# Altium schematic symbol library hphonglib.SchLib: 598 symbols (part 1 of 8)
Pins are listed as number, name and electrical type; pins without a type are passive.

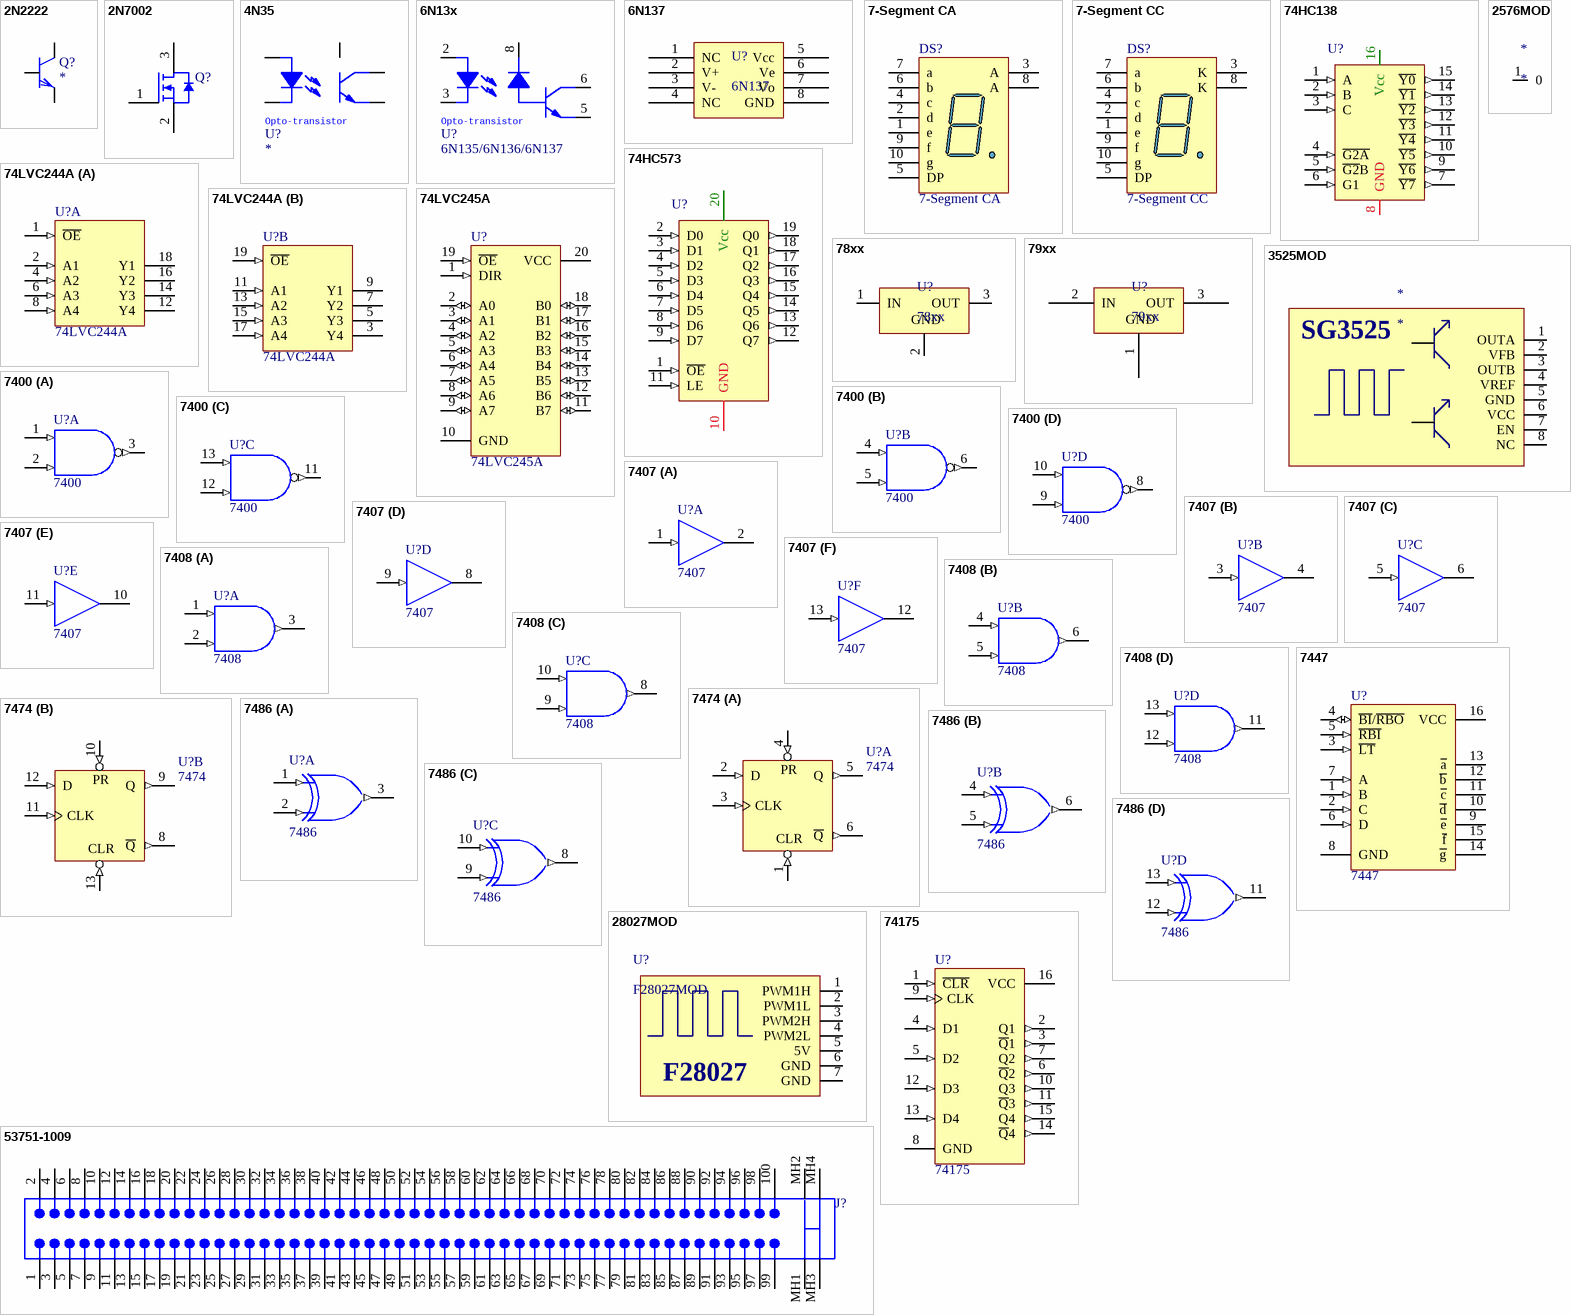
[diagram p0: symbols 2N2222 to 74175]

## 2N2222
designator Q?
NPN BJT Transistor; COMPONENT: 2N2222; PSpiceTemplate: Q^@REFDES %c %b %e @MODEL; Vendor: Digikey; Publisher: Hoang Nguyen; Published: 13-April-2009; ComponentLink1Description: Digikey Part Link; ComponentLink2Description: Open Datasheet; ComponentLink2URL: H:\LIBRARY\LIBRARY.Datasheet\
footprint TO18
simulation model Q2N2222
pins: 1 e, 2 b, 3 c

## 2N7002
designator Q?
N-Channel Enhancement Mode FET; Vendor: Digikey; Published: 5-Jan-2004; DatasheetDocument: Rev A1, 1997; Publisher: Altium Limited; ComponentLink1Description: Digikey Part Link; ComponentLink2Description: Open Datasheet; ComponentLink2URL: H:\LIBRARY\LIBRARY.Datasheet\
footprint SO-G3 (SOT-23; 3 Leads; 1.9mm x 2.2 mm (LxW))
pcadlib SO-G3 (SOT-23; 3 Leads; 1.9mm x 2.2 mm (LxW))
pins: 1 G "Gate", 2 S "Source", 3 D "Drain"

## 4N35
designator U?
Opto Couple; Vendor: Digikey; Published: 13-April-2009; Publisher: Hoang Nguyen; ComponentLink1Description: Digikey Part Link; ComponentLink2Description: Open Datasheet; ComponentLink2URL: H:\LIBRARY\LIBRARY.Datasheet\
footprint DIP6
pins: 1, 2, 4, 5, 6
text: Opto-transistor

## 6N13x
designator U?, comment 6N135/6N136/6N137
Opto Couple; Manufacturer: TI; Vendor: Digikey; Published: 13-April-2009; Publisher: Hoang Nguyen; ComponentLink1Description: Digikey Part Link; ComponentLink2Description: Open Datasheet; ComponentLink2URL: H:\LIBRARY\LIBRARY.Datasheet\
footprint DIP8N (Dual Inline Package 8 pins)
pins: 2 ANODE, 3 CATHODE, 5 GND, 6 OUTPUT, 8 VCC
text: Opto-transistor

## 6N137
designator U?
Single-Channel, High Speed 10MBit/s Logic Gate Optocouplers
footprint DIP-8 (DIP, 8-Pin, Row Spacing 7.62 mm, Pitch 2.54 mm)
pins: 1 NC, 2 V+, 3 V-, 4 NC, 5 Vcc, 6 Ve, 7 Vo, 8 GND

## 7-Segment CA
designator DS?
14.2 mm General Purpose Blue 7-Segment Display: CA, RH DP, Gray Surface; MinimumIntensity: 2020 ucd; Note: IF = 10 mA; Published: 8-Jun-2000; LatestRevisionDate: 17-Dec-2003; LatestRevisionNote: Schematic revised, PCB Footprint replaced.; DatasheetDocument: 24-Sep-2002; PackageDocument: 24-Sep-2002; PackageReference: H; Publisher: Altium Limited; Colour: Blue; ComponentLink1Description: Manufacturer Link; ComponentLink1URL: http://www.agilent.com/
footprint 7-Segment (LED, 7-Segment Display, 14.2 mm, RHD; 10 Leads; Row Space 15.24 mm; Pitch 2.54 mm)
pins: 1 e "Cathode", 2 d "Cathode", 3 A "Common Anode", 4 c "Cathode", 5 DP "Cathode", 6 b "Cathode", 7 a "Cathode", 8 A "Common Anode", 9 f "Cathode", 10 g "Cathode"

## 7-Segment CC
designator DS?
14.2 mm General Purpose Blue 7-Segment Display: CC, RH DP, Gray Surface; MinimumIntensity: 2020 ucd; Note: IF = 10 mA; Published: 8-Jun-2000; LatestRevisionDate: 17-Dec-2003; LatestRevisionNote: Schematic revised, PCB Footprint replaced.; DatasheetDocument: 24-Sep-2002; PackageDocument: 24-Sep-2002; PackageReference: H; Publisher: Altium Limited; Colour: Blue; ComponentLink1Description: Manufacturer Link; ComponentLink1URL: http://www.agilent.com/
footprint 7-Segment (LED, 7-Segment Display, 14.2 mm, RHD; 10 Leads; Row Space 15.24 mm; Pitch 2.54 mm)
pins: 1 e "Anode", 2 d "Anode", 3 K "Common Cathode", 4 c "Anode", 5 DP "Anode", 6 b "Anode", 7 a "Anode", 8 K "Common Cathode", 9 f "Anode", 10 g "Anode"

## 74HC138
designator U?  (value not drawn)
3-to-8 line decoder/demultiplexer; inverting; ComponentLink2Description: Open Datasheet; ComponentLink2URL: H:\LIBRARY\LIBRARY.Datasheet\MM74HC138.pdf; Price: 2.500 VND
footprint SOIC16 (Small Outline; 16 Leads; Body Width 3.5 mm; Pitch 1.27 mm)
footprint DIP16 (DIP; 16 Leads; Row Spacing 7.62 mm; Pitch 2.54 mm)
footprint SOIC16_150_N (Small Outline; 16 Leads; Body Width 3.5 mm; Pitch 1.27 mm)
pins: 1 A (in), 2 B (in), 3 C (in), 4 ~{G2A} (in), 5 ~{G2}B (in), 6 G1 (in), 7 ~{Y7} (out), 8 GND (power), 9 ~{Y6} (out), 10 ~{Y5} (out), 11 ~{Y4} (out), 12 ~{Y3} (out), 13 ~{Y2} (out), 14 ~{Y1} (out), 15 ~{Y0} (out), 16 Vcc (power)

## 74HC573
designator U?  (value not drawn)
Octal D-type transparent latch;  3-state; ComponentLink2Description: Open Datasheet; ComponentLink2URL: H:\LIBRARY\LIBRARY.Datasheet\74HC(T)573.pdf; Price: 3.000 VND
footprint SO-20 - 74HC573 (: plastic small outline package; 20 leads; body width 7.5 mm)
footprint DIP20
footprint SSOP-20 (SSOP, Plastic; 20 Leads; Body Width 5.3 mm; Pitch 0.65 mm)
footprint VO20
footprint DIP20N (DIP; 20 Leads; Row Spacing 7.62 mm; Pitch 2.54 mm)
footprint SO-20-300 (Footprint not found)
pins: 1 ~{OE} (in), 2 D0 (in), 3 D1 (in), 4 D2 (in), 5 D3 (in), 6 D4 (in), 7 D5 (in), 8 D6 (in), 9 D7 (in), 10 GND (power), 11 LE (in), 12 Q7 (out), 13 Q6 (out), 14 Q5 (out), 15 Q4 (out), 16 Q3 (out), 17 Q2 (out), 18 Q1 (out), 19 Q0 (out), 20 Vcc (power)

## 74LVC244A
designator U?
Octal Buffer/Driver with 3-State Outputs; Vendor: Digikey; Published: 5-Jan-2004; DatasheetDocument: Aug-2003; Publisher: Altium Limited; ComponentLink1Description: Digikey Part Link; ComponentLink2Description: Open Datasheet; ComponentLink2URL: H:\LIBRARY\LIBRARY.Datasheet\sn74LS244.pdf
footprint SSOP-20 (SSOP, Plastic; 20 Leads; Body Width 5.3 mm; Pitch 0.65 mm)
pcadlib SSO-G20/P.65 (SSOP; 20 Leads; Body Width 5.3 mm; Pitch 0.65 mm)
footprint VO20
footprint SO-20-300 (: plastic small outline package; 20 leads; body width 7.5 mm)
footprint DIP20
footprint DIP20N (DIP; 20 Leads; Row Spacing 7.62 mm; Pitch 2.54 mm)
pins on every part: 10 GND (power) hidden to GND, 20 VCC (power) hidden to VCC
part A pins: 1 ~{OE} (in), 2 A1 (in), 4 A2 (in), 6 A3 (in), 8 A4 (in), 12 Y4 (hiz), 14 Y3 (hiz), 16 Y2 (hiz), 18 Y1 (hiz)
part B pins: 3 Y4 (hiz), 5 Y3 (hiz), 7 Y2 (hiz), 9 Y1 (hiz), 11 A1 (in), 13 A2 (in), 15 A3 (in), 17 A4 (in), 19 ~{OE} (in)

## 74LVC245A
designator U?
Octal Bus Transceiver with 3-State Outputs; Vendor: Digikey; Published: 5-Jan-2004; DatasheetDocument: Aug-2003; Publisher: Altium Limited; ComponentLink1Description: Digikey Part Link; ComponentLink2Description: Open Datasheet; ComponentLink2URL: H:\LIBRARY\LIBRARY.Datasheet\74LS245.pdf; Price: 3.500 VND
pcadlib SSO-G20/P.65 (SSOP; 20 Leads; Body Width 5.3 mm; Pitch 0.65 mm)
footprint DIP20
footprint SSOP-20 (SSOP, Plastic; 20 Leads; Body Width 5.3 mm; Pitch 0.65 mm)
footprint VO20
footprint SO-20-300 (: plastic small outline package; 20 leads; body width 7.5 mm)
footprint DIP20N (DIP; 20 Leads; Row Spacing 7.62 mm; Pitch 2.54 mm)
pins: 1 DIR (in), 2 A0 (io), 3 A1 (io), 4 A2 (io), 5 A3 (io), 6 A4 (io), 7 A5 (io), 8 A6 (io), 9 A7 (io), 10 GND (power), 11 B7 (io), 12 B6 (io), 13 B5 (io), 14 B4 (io), 15 B3 (io), 16 B2 (io), 17 B1 (io), 18 B0 (io), 19 ~{OE} (in), 20 VCC (power)

## 78xx
designator U?
3-Terminal 1A Positive Voltage Regulator
footprint TO-220-3 (TO-220; 3 Leads; Solder Pad 35mil)
footprint TO-220-3-Heatsink (TO-220; Heatsink; 3 Leads; Solder Pad 35mil)
pins: 1 IN, 2 GND, 3 OUT

## 79xx
designator U?
3-Terminal 1A Negative Voltage Regulator
footprint TO-220-3 (TO-220; 3 Leads; Solder Pad 35mil)
footprint TO-220-3-Heatsink (TO-220; Heatsink; 3 Leads; Solder Pad 35mil)
pins: 1 GND, 2 IN, 3 OUT

## 2576MOD
designator *
pins: 1 0

## 3525MOD
designator *
pins: 1 OUTA, 2 VFB, 3 OUTB, 4 VREF, 5 GND, 6 VCC, 7 EN, 8 NC
text: SG3525

## 7400
designator U?
Quad 2-Input NAND Gate; Published: 15-Apr-2002; LatestRevisionDate: 06-Jun-2005; LatestRevisionNote: Stylized 3D Model Added.; DatasheetVersion: Dec-1994; PackageVersion: 2000; PackageReference: N14A; Publisher: Altium Limited; PackageDescription: DIP; 14 Leads; Row Spacing 7.62 mm; Pitch 2.54 mm; ComponentLink1Description: Manufacturer Link; ComponentLink1URL: http://www.national.com/; ComponentLink2Description: Datasheet; ComponentLink2URL: http://www.fairchildsemi.com/ds/74/74F00.pdf; ComponentLink3Description: URL Link1; ComponentLink3URL: http://www.fairchildsemi.com/pf/74/74F00.html
footprint DIP-14 (DIP, 14-Pin, Row Spacing 7.62 mm, Pitch 2.54 mm)
pins on every part: 7 GND (power) hidden to GND, 14 VCC (power) hidden to VCC
part A pins: 1 A (in), 2 B (in), 3 ~{O} (out)
part B pins: 4 A (in), 5 B (in), 6 ~{O} (out)
part C pins: 11 ~{O} (out), 12 B (in), 13 A (in)
part D pins: 8 ~{O} (out), 9 B (in), 10 A (in)

## 7407
designator U?
Hex Buffer / Driver with Open-Collector High-Voltage Outputs; Published: 8-Jun-2000; LatestRevisionDate: 04-Mar-2005; LatestRevisionNote: Stylized 3D Model Added.; DatasheetVersion: Nov-1997; PackageVersion: Oct-1995; PackageReference: N014; Publisher: Altium Limited; PackageDescription: DIP; 14 Leads; Row Spacing 7.62 mm; Pitch 2.54 mm; ComponentLink1Description: Manufacturer Link; ComponentLink1URL: http://www.ti.com/; ComponentLink2Description: Datasheet; ComponentLink2URL: http://www-s.ti.com/sc/ds/sn5407.pdf; ComponentLink3Description: Packaging Specification; ComponentLink3URL: http://focus.ti.com/lit/ml/mpdi002c/mpdi002c.pdf
footprint DIP-14 (DIP, 14-Pin, Row Spacing 7.62 mm, Pitch 2.54 mm)
pins on every part: 7 GND (power) hidden to GND, 14 VCC (power) hidden to VCC
part A pins: 1 A (in), 2 Y (oc)
part B pins: 3 A (in), 4 Y (oc)
part C pins: 5 A (in), 6 Y (oc)
part D pins: 8 Y (oc), 9 A (in)
part E pins: 10 Y (oc), 11 A (in)
part F pins: 12 Y (oc), 13 A (in)

## 7408
designator U?
Quad 2-Input AND Gate; Published: 15-Apr-2002; LatestRevisionDate: 06-Jun-2005; LatestRevisionNote: Stylized 3D Model Added.; DatasheetVersion: Dec-1994; PackageVersion: 2000; PackageReference: N14A; Publisher: Altium Limited; PackageDescription: DIP; 14 Leads; Row Spacing 7.62 mm; Pitch 2.54 mm; ComponentLink1Description: Manufacturer Link; ComponentLink1URL: http://www.national.com/; ComponentLink2Description: Datasheet; ComponentLink2URL: http://www.fairchildsemi.com/ds/74/74F08.pdf; ComponentLink3Description: URL Link1; ComponentLink3URL: http://www.fairchildsemi.com/pf/74/74F08.html
footprint DIP-14 (DIP, 14-Pin, Row Spacing 7.62 mm, Pitch 2.54 mm)
pins on every part: 7 GND (power) hidden to GND, 14 VCC (power) hidden to VCC
part A pins: 1 A (in), 2 B (in), 3 O (out)
part B pins: 4 A (in), 5 B (in), 6 O (out)
part C pins: 8 O (out), 9 B (in), 10 A (in)
part D pins: 11 O (out), 12 B (in), 13 A (in)

## 7447
designator U?
BCD to 7-Segment Decoder/Driver; Published: 15-Apr-2002; LatestRevisionDate: 06-Jun-2005; LatestRevisionNote: Stylized 3D Model Added.; DatasheetVersion: Jun-1989; PackageVersion: 2000; PackageReference: N16E; Publisher: Altium Limited; PackageDescription: DIP; 16 Leads; Row Spacing 7.62 mm; Pitch 2.54 mm; ComponentLink1Description: Manufacturer Link; ComponentLink1URL: http://www.national.com/; ComponentLink2Description: Datasheet; ComponentLink2URL: http://www.national.com/ds.cgi/DM/DM5447A.pdf; ComponentLink3Description: URL Link1; ComponentLink3URL: http://www.national.com/pf/DM/DM5447A.html
footprint DIP-16 (DIP, 16-Pin, Row Spacing 7.62 mm, Pitch 2.54 mm)
pins: 1 B (in), 2 C (in), 3 ~{LT} (in), 4 ~{BI}/~{RBO} (io), 5 ~{RBI} (in), 6 D (in), 7 A (in), 8 GND (power), 9 ~{e} (oc), 10 ~{d} (oc), 11 ~{c} (oc), 12 ~{b} (oc), 13 ~{a} (oc), 14 ~{g} (oc), 15 ~{f} (oc), 16 VCC (power)

## 7474
designator U?
Dual D-Type Positive Edge-Triggered Flip-Flop; Published: 15-Apr-2002; LatestRevisionDate: 06-Jun-2005; LatestRevisionNote: Stylized 3D Model Added.; DatasheetVersion: Feb-1993; PackageVersion: 2000; PackageReference: N14A; Publisher: Altium Limited; PackageDescription: DIP; 14 Leads; Row Spacing 7.62 mm; Pitch 2.54 mm; ComponentLink1Description: Manufacturer Link; ComponentLink1URL: http://www.national.com/; ComponentLink2Description: Datasheet; ComponentLink2URL: http://www.fairchildsemi.com/ds/74/74AC74.pdf
footprint DIP-14 (DIP, 14-Pin, Row Spacing 7.62 mm, Pitch 2.54 mm)
pins on every part: 7 GND (power) hidden to GND, 14 VCC (power) hidden to VCC
part A pins: 1 CLR (in), 2 D (in), 3 CLK (in), 4 PR (in), 5 Q (out), 6 ~{Q} (out)
part B pins: 8 ~{Q} (out), 9 Q (out), 10 PR (in), 11 CLK (in), 12 D (in), 13 CLR (in)

## 7486
designator U?
2-Input Exclusive-OR Gate; Published: 15-Apr-2002; LatestRevisionDate: 06-Jun-2005; LatestRevisionNote: Stylized 3D Model Added.; DatasheetVersion: Dec-1994; PackageVersion: 2000; PackageReference: N14A; Publisher: Altium Limited; PackageDescription: DIP; 14 Leads; Row Spacing 7.62 mm; Pitch 2.54 mm; ComponentLink1Description: Manufacturer Link; ComponentLink1URL: http://www.national.com/; ComponentLink2Description: Datasheet; ComponentLink2URL: http://www.fairchildsemi.com/ds/74/74F86.pdf; ComponentLink3Description: URL Link1; ComponentLink3URL: http://www.fairchildsemi.com/pf/74/74F86.html
footprint DIP-14 (DIP, 14-Pin, Row Spacing 7.62 mm, Pitch 2.54 mm)
pins on every part: 7 GND (power) hidden to GND, 14 VCC (power) hidden to VCC
part A pins: 1 A (in), 2 B (in), 3 O (out)
part B pins: 4 A (in), 5 B (in), 6 O (out)
part C pins: 8 O (out), 9 B (in), 10 A (in)
part D pins: 11 O (out), 12 B (in), 13 A (in)

## 28027MOD
designator U?, comment F28027MOD
pins: 1 PWM1H, 2 PWM1L, 3 PWM2H, 4 PWM2L, 5 5V, 6 GND, 7 GND
text: F28027

## 53751-1009
designator J?
Board-to-Board, Docking Station, 0.80mm (.031") Pitch, Shielded Plug, Vertical, Ultra Low Profile, SMT; Vendor: Digikey; Published: 5-Jan-2004; DatasheetDocument: 04-Feb-2002; Publisher: Altium Limited; ComponentLink1Description: Digikey Part Link; ComponentLink2Description: Open Datasheet; ComponentLink2URL: H:\LIBRARY\LIBRARY.Datasheet\
footprint 53751 (Board-to-Board, Docking Station, 0.80mm (.031") Pitch, Shielded Plug, Vertical, Ultra Low Profile, SMT)
pcadlib 53751 (Board-to-Board, Docking Station, 0.80mm (.031") Pitch, Shielded Plug, Vertical, Ultra Low Profile, SMT)
pins: 1, 2, 3, 4, 5, 6, 7, 8, 9, 10, 11, 12, 13, 14, 15, 16, 17, 18, 19, 20, 21, 22, 23, 24, 25, 26, 27, 28, 29, 30, 31, 32, 33, 34, 35, 36, 37, 38, 39, 40, 41, 42, 43, 44, 45, 46, 47, 48, 49, 50, 51, 52, 53, 54, 55, 56, 57, 58, 59, 60, 61, 62, 63, 64, 65, 66, 67, 68, 69, 70, 71, 72, 73, 74, 75, 76, 77, 78, 79, 80, 81, 82, 83, 84, 85, 86, 87, 88, 89, 90, 91, 92, 93, 94, 95, 96, 97, 98, 99, 100, MH1, MH2, MH2A, MH2B, MH3, MH4, MH4A, MH4B
1 alternate drawing of the same symbol

## 74175
designator U?
Quad D-Type Flip-Flop with Clear; Published: 15-Apr-2002; LatestRevisionDate: 06-Jun-2005; LatestRevisionNote: Stylized 3D Model Added.; DatasheetVersion: 1995; PackageVersion: 2000; PackageReference: N16A; Publisher: Altium Limited; PackageDescription: DIP; 16 Leads; Row Spacing 7.62 mm; Pitch 2.54 mm; ComponentLink1Description: Manufacturer Link; ComponentLink1URL: http://www.national.com/; ComponentLink2Description: Datasheet; ComponentLink2URL: http://www.fairchildsemi.com/ds/DM/DM74ALS175.pdf
footprint DIP-16 (DIP, 16-Pin, Row Spacing 7.62 mm, Pitch 2.54 mm)
pins: 1 ~{CLR} (in), 2 Q1 (out), 3 ~{Q}1 (out), 4 D1 (in), 5 D2 (in), 6 ~{Q}2 (out), 7 Q2 (out), 8 GND (power), 9 CLK (in), 10 Q3 (out), 11 ~{Q}3 (out), 12 D3 (in), 13 D4 (in), 14 ~{Q}4 (out), 15 Q4 (out), 16 VCC (power)

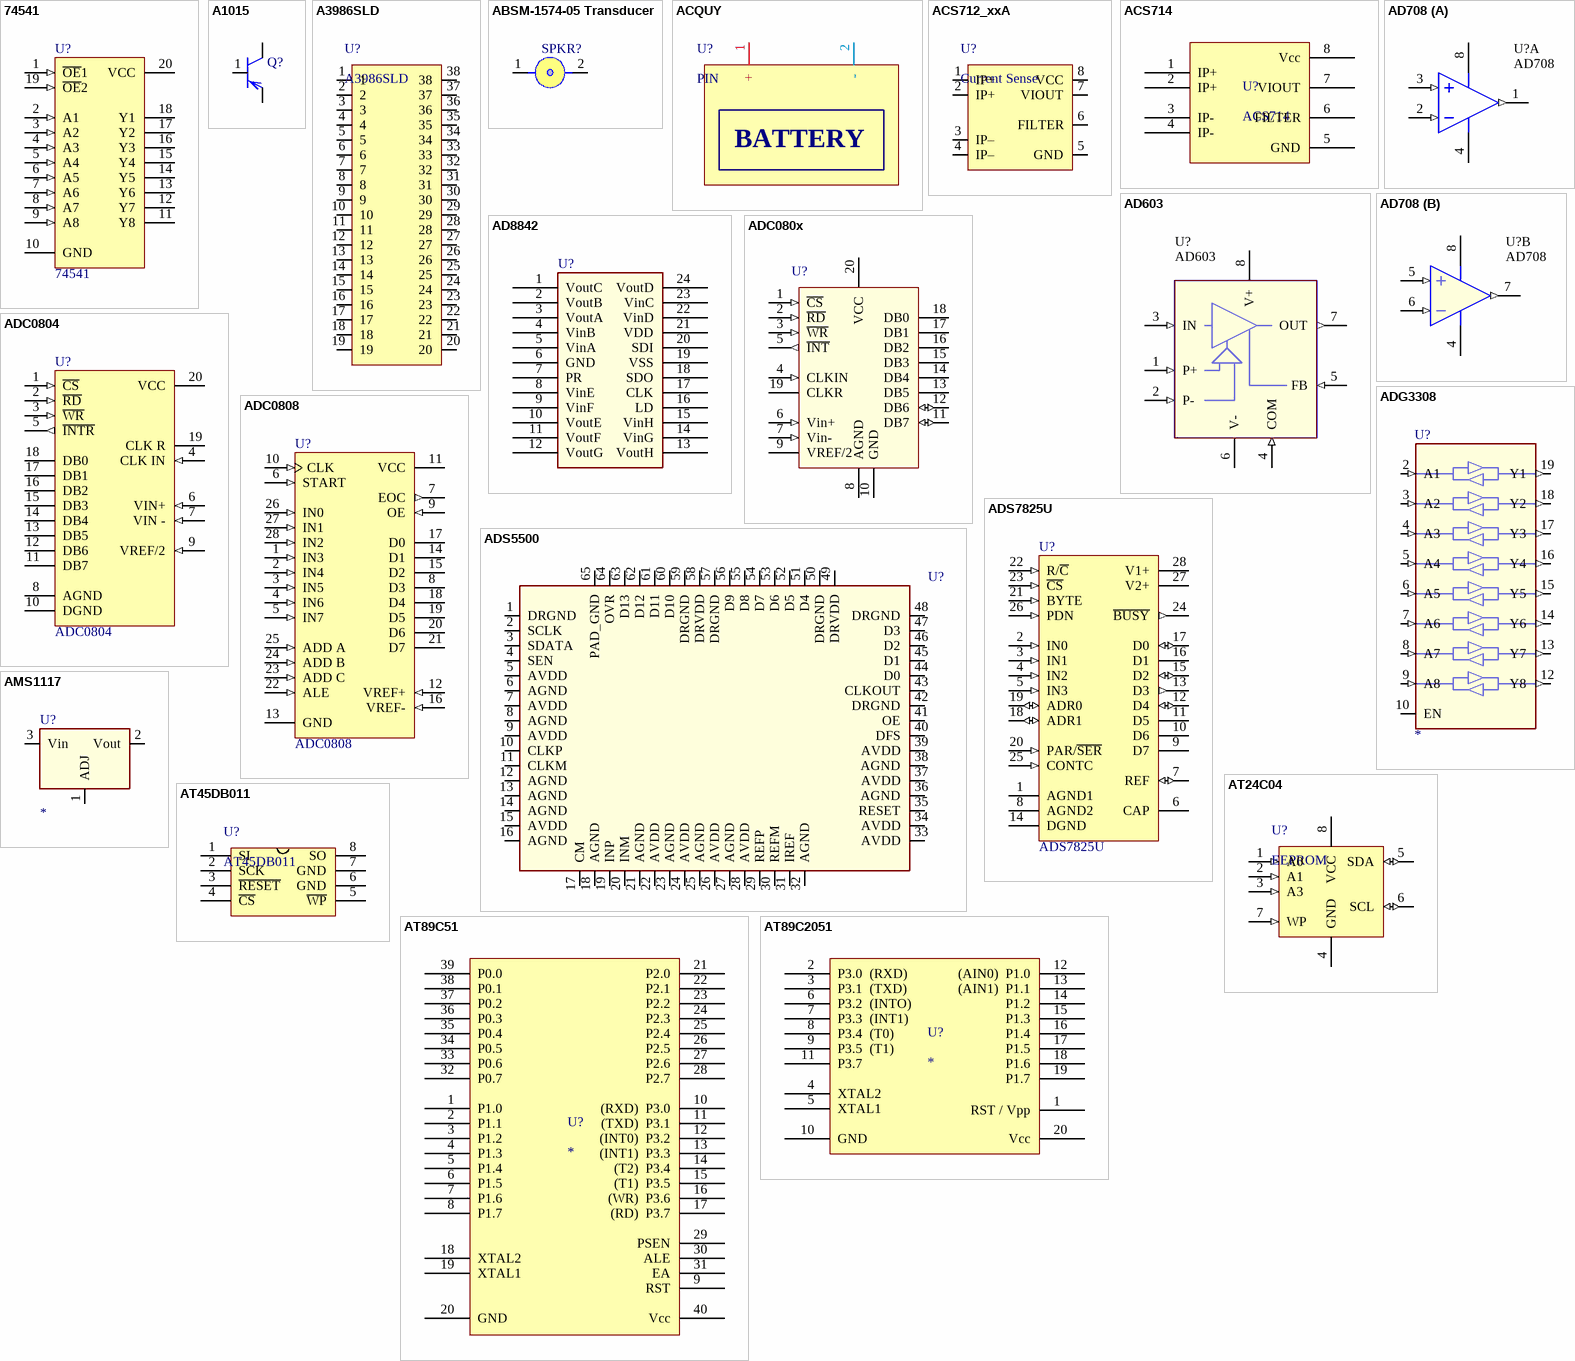
[diagram p1: symbols 74541 to AT89C2051]

## 74541
designator U?
Octal Buffer/Driver with 3-State Outputs; Published: 8-Jun-2000; LatestRevisionDate: 06-Jun-2005; LatestRevisionNote: Stylized 3D Model Added.; DatasheetVersion: May-1997; PackageVersion: Oct-1995; PackageReference: N020; Publisher: Altium Limited; PackageDescription: DIP; 20 Leads; Row Spacing 7.62 mm; Pitch 2.54 mm; ComponentLink1Description: Manufacturer Link; ComponentLink1URL: http://www.ti.com/; ComponentLink2Description: Datasheet; ComponentLink2URL: http://www-s.ti.com/sc/ds/sn74hc541.pdf
footprint DIP-20 (DIP, 20-Pin, Row Spacing 7.62 mm, Pitch 2.54 mm)
pins: 1 ~{OE}1 (in), 2 A1 (in), 3 A2 (in), 4 A3 (in), 5 A4 (in), 6 A5 (in), 7 A6 (in), 8 A7 (in), 9 A8 (in), 10 GND (power), 11 Y8 (hiz), 12 Y7 (hiz), 13 Y6 (hiz), 14 Y5 (hiz), 15 Y4 (hiz), 16 Y3 (hiz), 17 Y2 (hiz), 18 Y1 (hiz), 19 ~{OE}2 (in), 20 VCC (power)

## A1015
designator Q?  (value not drawn)
Q2SA1015; PSpiceTemplate: Q^@REFDES %c %b %e @MODEL; Vendor: Digikey; VCBO: -50V; VEBO: -5V; Ic: 150mA; Pc: 200mW; COMPONENT: 2SA1015; Published: 13-April-2009; Publisher: Hoang Nguyen; ComponentLink1Description: Digikey Part Link; ComponentLink2Description: Open Datasheet; ComponentLink2URL: H:\LIBRARY\LIBRARY.Datasheet\; Price: 500VND; VCEO: -50V
footprint TO92-ECB
simulation model Q2SA1015
footprint SOT23 [A1015] (SOT23, 3-Leads, Body 3.0x2.6mm (max), Pitch 0.95mm, IPC Medium Density)
footprint SOT23N (SOT23, 3-Leads, Body 3.0x2.6mm (max), Pitch 0.95mm, IPC Medium Density)
footprint TO92-ECB-W (C1815)
footprint TO92-ECB-W (C1815)
pins: 1 B, 2 E, 3 C

## A3986SLD
designator U?
Step Driver; ComponentLink2Description: Open Datasheet; ComponentLink2URL: H:\LIBRARY\LIBRARY.Datasheet\
footprint SSOP38/A3986SLD (Shrink Small Outline; 38 Leads; Body Width 4.4 mm; Pitch 0.5 mm)
pins: 1, 2, 3, 4, 5, 6, 7, 8, 9, 10, 11, 12, 13, 14, 15, 16, 17, 18, 19, 20, 21, 22, 23, 24, 25, 26, 27, 28, 29, 30, 31, 32, 33, 34, 35, 36, 37, 38

## ABSM-1574-05 Transducer
designator SPKR?
Magnetic transducer Buzzer; Vendor: Digikey; Published: 5-Jan-2004; DatasheetDocument: 17-Dec-2003; Publisher: Altium Limited; ComponentLink1Description: Digikey Part Link; ComponentLink2Description: Open Datasheet; ComponentLink2URL: H:\LIBRARY\LIBRARY.Datasheet\
footprint ABSM-1574 (Surface Mount Magnetic Buzzer; Body 12.8 x 12.8 mm (LxW))
pcadlib ABSM-1574 (Surface Mount Magnetic Buzzer; Body 12.8 x 12.8 mm (LxW))
pins: 1, 2

## ACQUY
designator U?, comment PIN
pins: 1 +, 2 -
text: BATTERY

## ACS712_xxA
designator U?, comment Current Sense
Current Sense IC
footprint Dip8N (Dual Inline Package 8 pins)
footprint SOIC8N
pins: 1 IP+, 2 IP+, 3 IP–, 4 IP–, 5 GND, 6 FILTER, 7 VIOUT, 8 VCC

## ACS714
designator U?
AutomotiveHall Effect-Based Linear Current Sensor
footprint SOIC-8N (SOIC, 8-Leads, Body 4.9x3.9mm, Pitch 1.27mm, IPC High Density)
pins: 1 IP+, 2 IP+, 3 IP-, 4 IP-, 5 GND, 6 FILTER, 7 VIOUT, 8 Vcc

## AD603
designator U?
Low noise 90 MHz Variable Gain Amplifier; Value: *; ComponentLink2URL: H:\LIBRARY\LIBRARY.Datasheet\
footprint DIP-8 (DIP; 8 Leads; Row Spacing 7.62 mm; Pitch 2.54 mm)
footprint SOIC8 (SOIC, 8-Leads, Body 4.9x3.9mm, Pitch 1.27mm, IPC Medium Density)
pins: 1 P+ (in), 2 P- (in), 3 IN (in), 4 COM (in), 5 FB (in), 6 V- (power), 7 OUT (out), 8 V+ (power)

## AD708
designator U?
Ultra Low Offset Voltage Dual Operational Amplifier; Published: 15-Apr-2002; LatestRevisionDate: 06-Jun-2005; LatestRevisionNote: Stylized 3D Model Added.; DatasheetVersion: Sep-1999; PackageVersion: Sep-1997; PackageReference: N08E; Publisher: Altium Limited; PackageDescription: DIP; 8 Leads; Row Spacing 7.62 mm; Pitch 2.54 mm; ComponentLink1Description: Manufacturer Link; ComponentLink2Description: Datasheet; ComponentLink3Description: URL Link1; ComponentLink2URL: H:\LIBRARY\LIBRARY.Datasheet\
footprint DIP-8 (DIP; 8 Leads; Row Spacing 7.62 mm; Pitch 2.54 mm)
footprint SOIC8 (SOIC, 8-Leads, Body 4.9x3.9mm, Pitch 1.27mm, IPC Medium Density)
pins on every part: 4 GND (power), 8 V+ (power)
part A pins: 1 OUT (out), 2 IN- (in), 3 IN+ (in)
part B pins: 5 IN+ (in), 6 IN- (in), 7 OUT (out)

## AD8842
designator U?  (value not drawn)
8-Bit Octal, 4-Quadrant Multiplying, CMOS TrimDAC; Vendor: Digikey; Published: 13-April-2009; Publisher: Hoang Nguyen; ComponentLink1Description: Digikey Part Link; ComponentLink2Description: Open Datasheet; ComponentLink2URL: H:\LIBRARY\LIBRARY.Datasheet\
pins: 1 VoutC, 2 VoutB, 3 VoutA, 4 VinB, 5 VinA, 6 GND (power), 7 PR, 8 VinE, 9 VinF, 10 VoutE, 11 VoutF, 12 VoutG, 13 VoutH, 14 VinG, 15 VinH, 16 LD, 17 CLK, 18 SDO, 19 VSS (power), 20 SDI, 21 VDD (power), 22 VinD, 23 VinC, 24 VoutD

## ADC080x
designator U?, comment ADC 1 channel  (value not drawn)
Analog Digital Conversion; Value: 26.000 VND; ComponentLink2Description: Open Datasheet; ComponentLink2URL: H:\LIBRARY\LIBRARY.Datasheet\ADC080x.pdf
footprint DIP20
footprint SO-20 (: plastic small outline package; 20 leads; body width 7.5 mm)
pins: 1 ~{CS} (in), 2 ~{RD} (in), 3 ~{WR} (in), 4 CLKIN (in), 5 ~{INT} (out), 6 Vin+ (in), 7 Vin- (in), 8 AGND (power), 9 VREF/2 (power), 10 GND (power), 11 DB7 (io), 12 DB6 (io), 13 DB5, 14 DB4, 15 DB3, 16 DB2, 17 DB1, 18 DB0, 19 CLKR, 20 VCC (power)

## ADC0804
designator U?
8-Bit µP-Compatible A/D Converter; Published: 15-Apr-2002; LatestRevisionDate: 06-Jun-2005; LatestRevisionNote: Stylized 3D Model Added.; DatasheetVersion: Nov-1999; PackageVersion: 2000; PackageReference: N20A; Publisher: Altium Limited; PackageDescription: DIP; 20 Leads; Row Spacing 7.62 mm; Pitch 2.54 mm; Code_JEDEC: MS-001-AD; ComponentLink1Description: Manufacturer Link; ComponentLink1URL: http://www.national.com/; ComponentLink2Description: Datasheet; ComponentLink2URL: http://www.national.com/ds.cgi/DC/ADC0801.pdf; ComponentLink3Description: URL Link1; ComponentLink3URL: http://www.national.com/pf/DC/ADC0804.html
footprint DIP-20 (DIP, 20-Pin, Row Spacing 7.62 mm, Pitch 2.54 mm)
pins: 1 ~{CS} (in), 2 ~{RD} (in), 3 ~{WR} (in), 4 CLK IN (in), 5 ~{INTR} (out), 6 VIN+ (in), 7 VIN - (in), 8 AGND (power), 9 VREF/2 (in), 10 DGND (power), 11 DB7 (hiz), 12 DB6 (hiz), 13 DB5 (hiz), 14 DB4 (hiz), 15 DB3 (hiz), 16 DB2 (hiz), 17 DB1 (hiz), 18 DB0 (hiz), 19 CLK R, 20 VCC (power)

## ADC0808
designator U?
8-Bit µP-Compatible A/D Converter with 8-Channel Multiplexer; ComponentAvailability: Obsolete; Published: 15-Apr-2002; LatestRevisionDate: 06-Jun-2005; LatestRevisionNote: Stylized 3D Model Added.; DatasheetVersion: Oct-1999; PackageVersion: 2000; PackageReference: J28A; Publisher: Altium Limited; PackageDescription: DIP; 28 Leads; Row Spacing 15.24 mm; Pitch 2.54 mm; ComponentLink1Description: Manufacturer Link; ComponentLink1URL: http://www.national.com/; ComponentLink2Description: Datasheet; ComponentLink2URL: http://www.national.com/ds.cgi/DC/ADC0808.pdf; ComponentLink3Description: Discontinuation Notice; ComponentLink3URL: http://www.national.com/obs/obsolescence.txt; ComponentLink4Description: URL Link1; ComponentLink4URL: http://www.national.com/pf/DC/ADC0808.html
footprint DIP-28W (DIP; 28 Leads; Row Spacing 15.24 mm; Pitch 2.54 mm)
pins: 1 IN3 (in), 2 IN4 (in), 3 IN5 (in), 4 IN6 (in), 5 IN7 (in), 6 START (in), 7 EOC (out), 8 D3 (hiz), 9 OE (in), 10 CLK (in), 11 VCC (power), 12 VREF+ (in), 13 GND (power), 14 D1 (hiz), 15 D2 (hiz), 16 VREF- (in), 17 D0 (hiz), 18 D4 (hiz), 19 D5 (hiz), 20 D6 (hiz), 21 D7 (hiz), 22 ALE (in), 23 ADD C (in), 24 ADD B (in), 25 ADD A (in), 26 IN0 (in), 27 IN1 (in), 28 IN2 (in)

## ADG3308
designator U?
Level translator; Vendor: Digikey; Published: 13-April-2009; Publisher: Hoang Nguyen; ComponentLink1Description: Digikey Part Link; ComponentLink2Description: Open Datasheet; ComponentLink2URL: H:\LIBRARY\LIBRARY.Datasheet\
footprint ADG3308
pins: 1 Va (power) hidden to Va, 2 A1 (in), 3 A2 (in), 4 A3 (in), 5 A4 (in), 6 A5 (in), 7 A6 (in), 8 A7 (in), 9 A8 (in), 10 EN, 11 GND (power) hidden to GND, 12 Y8 (out), 13 Y7 (out), 14 Y6 (out), 15 Y5 (out), 16 Y4 (out), 17 Y3 (out), 18 Y2 (out), 19 Y1 (out), 20 Vy (power) hidden to Vy

## ADS5500
designator U?  (value not drawn)
High-speed analog-to-digital converter (ADC); Resolution: 14-bit; Sample Rate: 125 MegaSamplePerSecond; Power Consumption: 780 mW; Voltage: 3-3.6V; ComponentLink1Description: Digikey Part Link; ComponentLink2Description: Open Datasheet; ComponentLink2URL: H:\LIBRARY\LIBRARY.Datasheet\
footprint PQFP-64
pins: 1 DRGND (power), 2 SCLK, 3 SDATA, 4 SEN, 5 AVDD (power), 6 AGND (power), 7 AVDD (power), 8 AGND (power), 9 AVDD (power), 10 CLKP, 11 CLKM, 12 AGND (power), 13 AGND (power), 14 AGND (power), 15 AVDD (power), 16 AGND (power), 17 CM, 18 AGND (power), 19 INP, 20 INM, 21 AGND (power), 22 AVDD (power), 23 AGND (power), 24 AVDD (power), 25 AGND (power), 26 AVDD (power), 27 AGND (power), 28 AVDD (power), 29 REFP, 30 REFM, 31 IREF, 32 AGND (power), 33 AVDD (power), 34 AVDD (power), 35 RESET, 36 AGND (power), 37 AVDD (power), 38 AGND (power), 39 AVDD (power), 40 DFS, 41 OE, 42 DRGND (power), 43 CLKOUT, 44 D0, 45 D1, 46 D2, 47 D3, 48 DRGND (power), 49 DRVDD (power), 50 DRGND (power), 51 D4, 52 D5, 53 D6, 54 D7, 55 D8, 56 D9, 57 DRGND (power), 58 DRVDD (power), 59 DRGND (power), 60 D10, 61 D11, 62 D12, 63 D13, 64 OVR, 65 PAD_GND (power)

## ADS7825U
designator U?
4 Channel, 16-Bit Sampling CMOS A/D Converter; Published: 8-Jun-2000; LatestRevisionDate: 13-Apr-2006; LatestRevisionNote: IPC-7351 Footprint Added.; DatasheetVersion: Oct-1997; PackageReference: 217G; Publisher: Altium Limited; PackageDescription: 28-Pin Small Outline Integrated Circuit 1.27 mm Pitch; ComponentLink1Description: Manufacturer Link; ComponentLink1URL: http://www.ti.com/; ComponentLink2Description: Datasheet; ComponentLink2URL: http://www-s.ti.com/sc/ds/ADS7825.pdf
footprint SOIC-28W (SOIC, 28-Leads, Body 17.9x7.5mm, Pitch 1.27mm, IPC Low Density)
pins: 1 AGND1 (power), 2 IN0 (in), 3 IN1 (in), 4 IN2 (in), 5 IN3 (in), 6 CAP, 7 REF (io), 8 AGND2 (power), 9 D7 (hiz), 10 D6 (hiz), 11 D5 (hiz), 12 D4 (io), 13 D3 (out), 14 DGND (power), 15 D2 (io), 16 D1 (hiz), 17 D0 (io), 18 ADR1 (io), 19 ADR0 (io), 20 PAR/~{SER} (in), 21 BYTE (in), 22 R/~{C} (in), 23 ~{CS} (in), 24 ~{BUSY} (out), 25 CONTC (in), 26 PDN (in), 27 V2+ (power), 28 V1+ (power)

## AMS1117
designator U?
Regulator SMD Chip; Vendor: Digikey; Published: 13-April-2009; Publisher: Hoang Nguyen; ComponentLink1Description: Digikey Part Link; ComponentLink2Description: Open Datasheet; ComponentLink2URL: H:\LIBRARY\LIBRARY.Datasheet\
pins: 1 ADJ, 2 Vout, 3 Vin

## AT24C04
designator U?, comment EEPROM
Manufacturer: Atmel; Memory: 4K; Interface: Serial I2C; ComponentLink1Description: Digikey Part Link; ComponentLink2Description: Open Datasheet; ComponentLink2URL: H:\LIBRARY\LIBRARY.Datasheet\DS1307.pdf
footprint DS1307.Dip8 (Dual Inline Package 8 pins)
footprint SOIC8
pins: 1 A0 (in), 2 A1 (in), 3 A3 (in), 4 GND (power), 5 SDA (io), 6 SCL (io), 7 WP (in), 8 VCC (power)

## AT45DB011
designator U?
Serial flash Memory; Density: 1Mb; Vcc: 2.5-2.7V; ComponentLink2Description: Open Datasheet; ComponentLink2URL: H:\LIBRARY\LIBRARY.Datasheet\
footprint SOIC8N
pins: 1 SI, 2 SCK, 3 ~{RESET}, 4 ~{CS}, 5 ~{WP}, 6 GND, 7 GND, 8 SO

## AT89C51
designator U?
8-bit Microcontroller with 8K Bytes Flash
footprint DIP-40 (DIP, 40-Pin, Row Spacing 15.24 mm, Pitch 2.54 mm)
pins: 1 P1.0, 2 P1.1, 3 P1.2, 4 P1.3, 5 P1.4, 6 P1.5, 7 P1.6, 8 P1.7, 9 RST, 10 (RXD)  P3.0, 11 (TXD)  P3.1, 12 (INT0)  P3.2, 13 (INT1)  P3.3, 14 (T2)  P3.4, 15 (T1)  P3.5, 16 (WR)  P3.6, 17 (RD)  P3.7, 18 XTAL2, 19 XTAL1, 20 GND, 21 P2.0, 22 P2.1, 23 P2.2, 24 P2.3, 25 P2.4, 26 P2.5, 27 P2.6, 28 P2.7, 29 PSEN, 30 ALE, 31 EA, 32 P0.7, 33 P0.6, 34 P0.5, 35 P0.4, 36 P0.3, 37 P0.2, 38 P0.1, 39 P0.0, 40 Vcc

## AT89C2051
designator U?
8-bit Microcontroller with 2K Bytes Flash
footprint DIP-20 (DIP, 20-Pin, Row Spacing 7.62 mm, Pitch 2.54 mm)
pins: 1 RST / Vpp, 2 P3.0  (RXD), 3 P3.1  (TXD), 4 XTAL2, 5 XTAL1, 6 P3.2  (INTO), 7 P3.3  (INT1), 8 P3.4  (T0), 9 P3.5  (T1), 10 GND, 11 P3.7, 12 (AIN0)  P1.0, 13 (AIN1)  P1.1, 14 P1.2, 15 P1.3, 16 P1.4, 17 P1.5, 18 P1.6, 19 P1.7, 20 Vcc

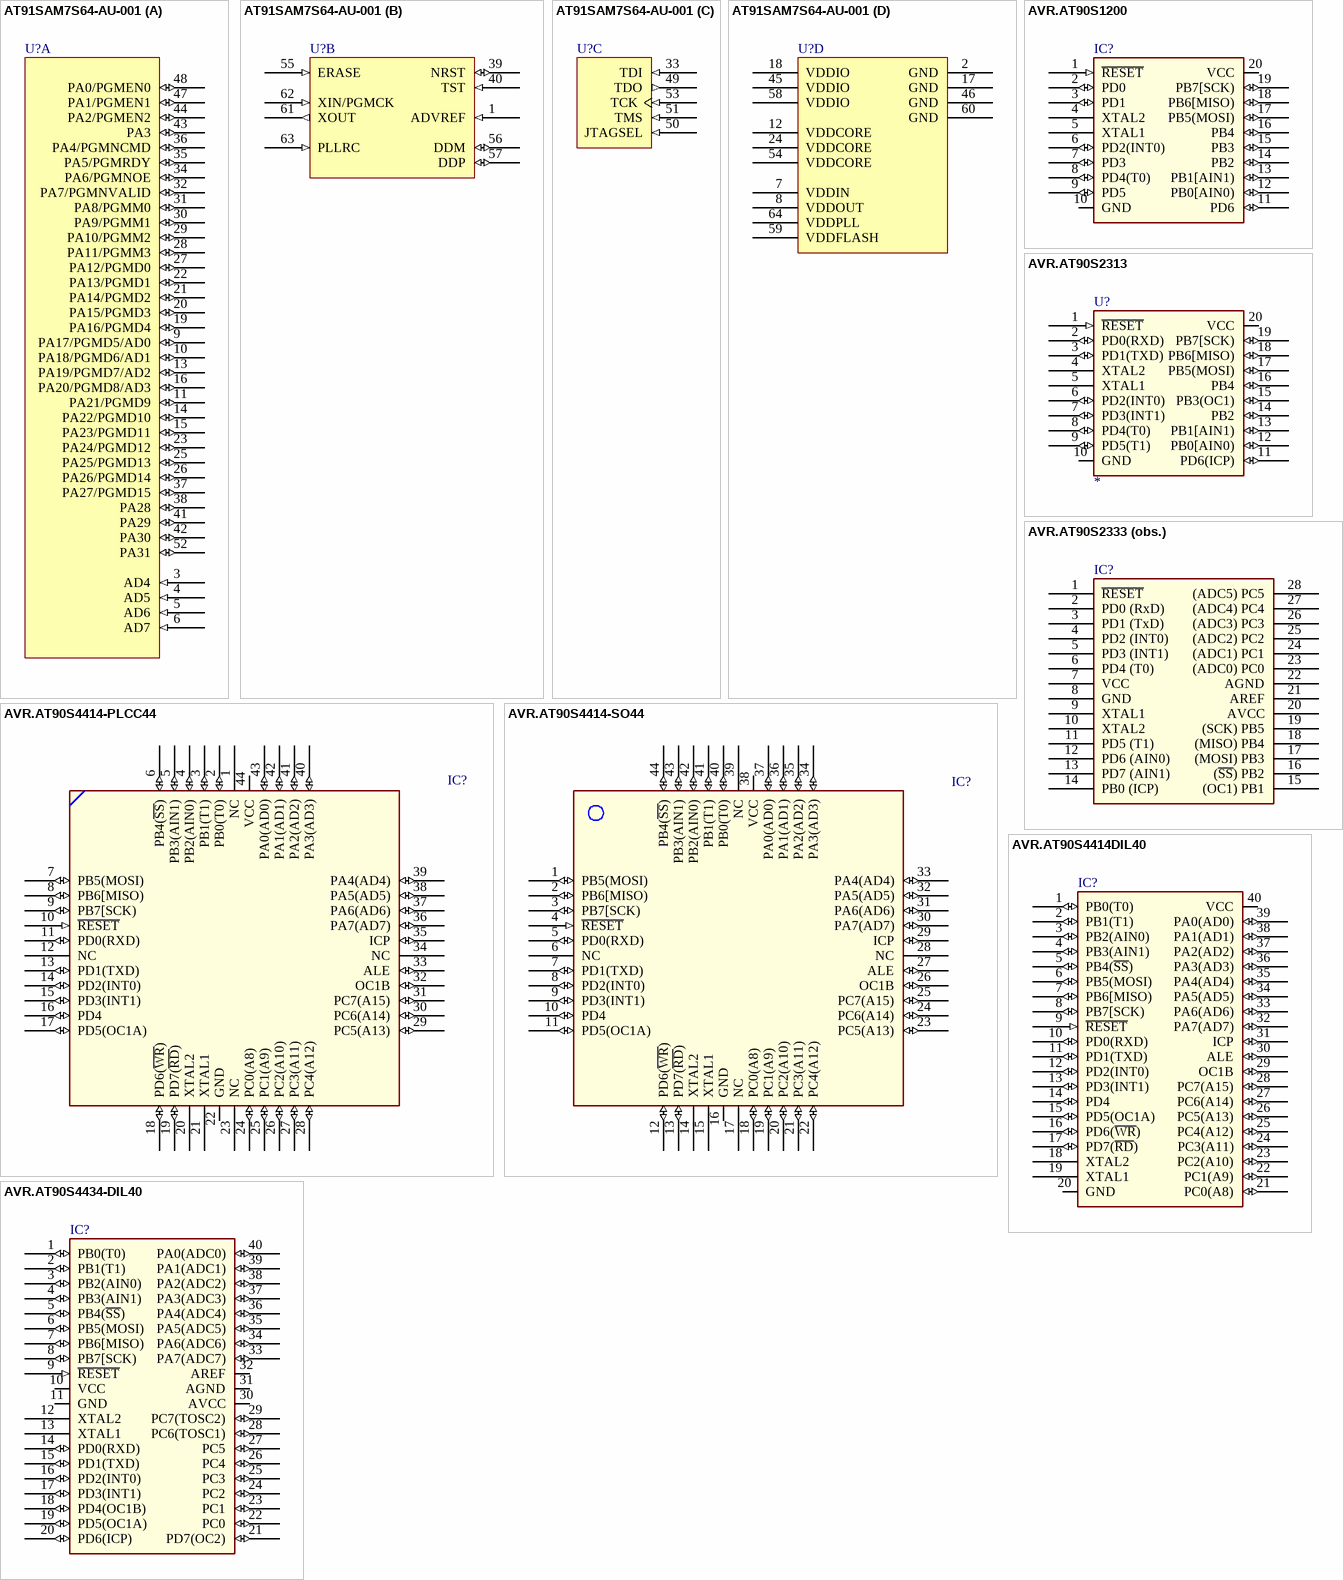
[diagram p2: symbols AT91SAM7S64-AU-001 to AVR.AT90S4434-DIL40]

## AT91SAM7S64-AU-001
designator U?
Smart ARM Microcontroller, ARM7TDMI 32-Bit RISC CPU, 64KB Flash and 16KB SRAM, 64-Pin LQFP, Industrial, Pb-Free; Published: 16-Oct-2006; DatasheetVersion: 22-Mar-2006; PackageVersion: Apr-2006; PackageReference: LQFP64; Publisher: Altium Limited; PackageDescription: 64-Pin Thin Quad Flat Pack 0.5 mm Pitch; Code_JEDEC: MS-026-BCD; ComponentLink1Description: Manufacturer Link; ComponentLink1URL: http://www.atmel.com; ComponentLink2Description: Datasheet; ComponentLink2URL: http://www.atmel.com/dyn/resources/prod_documents/6175s.pdf
footprint LQFP-10x10-0.5-64 (Thin QFP, 64-Leads, Body 10x10mm, Pitch 0.5mm, IPC Low Density)
part A pins: 3 AD4 (in), 4 AD5 (in), 5 AD6 (in), 6 AD7 (in), 9 PA17/PGMD5/AD0 (io), 10 PA18/PGMD6/AD1 (io), 11 PA21/PGMD9 (io), 13 PA19/PGMD7/AD2 (io), 14 PA22/PGMD10 (io), 15 PA23/PGMD11 (io), 16 PA20/PGMD8/AD3 (io), 19 PA16/PGMD4 (io), 20 PA15/PGMD3 (io), 21 PA14/PGMD2 (io), 22 PA13/PGMD1 (io), 23 PA24/PGMD12 (io), 25 PA25/PGMD13 (io), 26 PA26/PGMD14 (io), 27 PA12/PGMD0 (io), 28 PA11/PGMM3 (io), 29 PA10/PGMM2 (io), 30 PA9/PGMM1 (io), 31 PA8/PGMM0 (io), 32 PA7/PGMNVALID (io), 34 PA6/PGMNOE (io), 35 PA5/PGMRDY (io), 36 PA4/PGMNCMD (io), 37 PA27/PGMD15 (io), 38 PA28 (io), 41 PA29 (io), 42 PA30 (io), 43 PA3 (io), 44 PA2/PGMEN2 (io), 47 PA1/PGMEN1 (io), 48 PA0/PGMEN0 (io), 52 PA31 (io)
part B pins: 1 ADVREF (in), 39 NRST (io), 40 TST (in), 55 ERASE (in), 56 DDM (io), 57 DDP (io), 61 XOUT (out), 62 XIN/PGMCK (in), 63 PLLRC (in)
part C pins: 33 TDI (in), 49 TDO (out), 50 JTAGSEL (in), 51 TMS (in), 53 TCK (in)
part D pins: 2 GND (power), 7 VDDIN (power), 8 VDDOUT (power), 12 VDDCORE (power), 17 GND (power), 18 VDDIO (power), 24 VDDCORE (power), 45 VDDIO (power), 46 GND (power), 54 VDDCORE (power), 58 VDDIO (power), 59 VDDFLASH (power), 60 GND (power), 64 VDDPLL (power)

## AVR.AT90S1200
designator IC?  (value not drawn)
Manufacturer: Atmel; Flash: Kb; SRAM: Bytes; Volt: V; CPU Speed (MIPS): 0 MIPS; ComponentLink1Description: Degikey Part link; ComponentLink2Description: Open DataSheet; ComponentLink2URL: H:\LIBRARY\LIBRARY.Datasheet\; Publisher: Hoang Nguyen
pins: 1 ~{RESET} (in), 2 PD0 (io), 3 PD1 (io), 4 XTAL2, 5 XTAL1, 6 PD2(INT0) (io), 7 PD3 (io), 8 PD4(T0) (io), 9 PD5 (io), 10 GND, 11 PD6 (io), 12 PB0[AIN0) (io), 13 PB1[AIN1) (io), 14 PB2 (io), 15 PB3 (io), 16 PB4 (io), 17 PB5(MOSI) (io), 18 PB6[MISO) (io), 19 PB7[SCK) (io), 20 VCC

## AVR.AT90S2313
designator U?
Manufacturer: Atmel; Flash: Kb; SRAM: Bytes; Volt: V; CPU Speed (MIPS): 0 MIPS; ComponentLink1Description: Degikey Part link; ComponentLink2Description: Open DataSheet; ComponentLink2URL: H:\LIBRARY\LIBRARY.Datasheet\; Publisher: Hoang Nguyen
pins: 1 ~{RESET} (in), 2 PD0(RXD) (io), 3 PD1(TXD) (io), 4 XTAL2, 5 XTAL1, 6 PD2(INT0) (io), 7 PD3(INT1) (io), 8 PD4(T0) (io), 9 PD5(T1) (io), 10 GND, 11 PD6(ICP) (io), 12 PB0[AIN0) (io), 13 PB1[AIN1) (io), 14 PB2 (io), 15 PB3(OC1) (io), 16 PB4 (io), 17 PB5(MOSI) (io), 18 PB6[MISO) (io), 19 PB7[SCK) (io), 20 VCC

## AVR.AT90S2333 (obs.)
designator IC?  (value not drawn)
Manufacturer: Atmel; Flash: Kb; SRAM: Bytes; Volt: V; CPU Speed (MIPS): 0 MIPS; ComponentLink1Description: Degikey Part link; ComponentLink2Description: Open DataSheet; ComponentLink2URL: H:\LIBRARY\LIBRARY.Datasheet\; Publisher: Hoang Nguyen
footprint DIL28
pins: 1 ~{RESET} (hiz), 2 PD0 (RxD) (hiz), 3 PD1 (TxD) (hiz), 4 PD2 (INT0) (hiz), 5 PD3 (INT1) (hiz), 6 PD4 (T0) (hiz), 7 VCC, 8 GND, 9 XTAL1 (hiz), 10 XTAL2 (hiz), 11 PD5 (T1) (hiz), 12 PD6 (AIN0) (hiz), 13 PD7 (AIN1) (hiz), 14 PB0 (ICP) (hiz), 15 (OC1) PB1 (hiz), 16 (~{SS}) PB2 (hiz), 17 (MOSI) PB3 (hiz), 18 (MISO) PB4 (hiz), 19 (SCK) PB5 (hiz), 20 AVCC, 21 AREF, 22 AGND, 23 (ADC0) PC0 (hiz), 24 (ADC1) PC1 (hiz), 25 (ADC2) PC2 (hiz), 26 (ADC3) PC3 (hiz), 27 (ADC4) PC4 (hiz), 28 (ADC5) PC5 (hiz)

## AVR.AT90S4414-PLCC44
designator IC?  (value not drawn)
Manufacturer: Atmel; Flash: Kb; SRAM: Bytes; Volt: V; CPU Speed (MIPS): 0 MIPS; ComponentLink1Description: Degikey Part link; ComponentLink2Description: Open DataSheet; ComponentLink2URL: H:\LIBRARY\LIBRARY.Datasheet\; Publisher: Hoang Nguyen
pins: 1 NC, 2 PB0(T0) (io), 3 PB1(T1) (io), 4 PB2(AIN0) (io), 5 PB3(AIN1) (io), 6 PB4(~{SS}) (io), 7 PB5(MOSI) (io), 8 PB6[MISO) (io), 9 PB7[SCK) (io), 10 ~{RESET} (in), 11 PD0(RXD) (io), 12 NC, 13 PD1(TXD) (io), 14 PD2(INT0) (io), 15 PD3(INT1) (io), 16 PD4 (io), 17 PD5(OC1A) (io), 18 PD6(~{WR}) (io), 19 PD7(~{RD}) (io), 20 XTAL2, 21 XTAL1, 22 GND, 23 NC, 24 PC0(A8) (io), 25 PC1(A9) (io), 26 PC2(A10) (io), 27 PC3(A11) (io), 28 PC4(A12) (io), 29 PC5(A13) (io), 30 PC6(A14) (io), 31 PC7(A15) (io), 32 OC1B (io), 33 ALE (io), 34 NC, 35 ICP (io), 36 PA7(AD7) (io), 37 PA6(AD6) (io), 38 PA5(AD5) (io), 39 PA4(AD4) (io), 40 PA3(AD3) (io), 41 PA2(AD2) (io), 42 PA1(AD1) (io), 43 PA0(AD0) (io), 44 VCC

## AVR.AT90S4414-SO44
designator IC?  (value not drawn)
Manufacturer: Atmel; Flash: Kb; SRAM: Bytes; Volt: V; CPU Speed (MIPS): 0 MIPS; ComponentLink1Description: Degikey Part link; ComponentLink2Description: Open DataSheet; ComponentLink2URL: H:\LIBRARY\LIBRARY.Datasheet\; Publisher: Hoang Nguyen
pins: 1 PB5(MOSI) (io), 2 PB6[MISO) (io), 3 PB7[SCK) (io), 4 ~{RESET} (in), 5 PD0(RXD) (io), 6 NC, 7 PD1(TXD) (io), 8 PD2(INT0) (io), 9 PD3(INT1) (io), 10 PD4 (io), 11 PD5(OC1A) (io), 12 PD6(~{WR}) (io), 13 PD7(~{RD}) (io), 14 XTAL2, 15 XTAL1, 16 GND, 17 NC, 18 PC0(A8) (io), 19 PC1(A9) (io), 20 PC2(A10) (io), 21 PC3(A11) (io), 22 PC4(A12) (io), 23 PC5(A13) (io), 24 PC6(A14) (io), 25 PC7(A15) (io), 26 OC1B (io), 27 ALE (io), 28 NC, 29 ICP (io), 30 PA7(AD7) (io), 31 PA6(AD6) (io), 32 PA5(AD5) (io), 33 PA4(AD4) (io), 34 PA3(AD3) (io), 35 PA2(AD2) (io), 36 PA1(AD1) (io), 37 PA0(AD0) (io), 38 VCC, 39 NC, 40 PB0(T0) (io), 41 PB1(T1) (io), 42 PB2(AIN0) (io), 43 PB3(AIN1) (io), 44 PB4(~{SS}) (io)

## AVR.AT90S4414DIL40
designator IC?  (value not drawn)
Manufacturer: Atmel; Flash: Kb; SRAM: Bytes; Volt: V; CPU Speed (MIPS): 0 MIPS; ComponentLink1Description: Degikey Part link; ComponentLink2Description: Open DataSheet; ComponentLink2URL: H:\LIBRARY\LIBRARY.Datasheet\; Publisher: Hoang Nguyen
pins: 1 PB0(T0) (io), 2 PB1(T1) (io), 3 PB2(AIN0) (io), 4 PB3(AIN1) (io), 5 PB4(~{SS}) (io), 6 PB5(MOSI) (io), 7 PB6[MISO) (io), 8 PB7[SCK) (io), 9 ~{RESET} (in), 10 PD0(RXD) (io), 11 PD1(TXD) (io), 12 PD2(INT0) (io), 13 PD3(INT1) (io), 14 PD4 (io), 15 PD5(OC1A) (io), 16 PD6(~{WR}) (io), 17 PD7(~{RD}) (io), 18 XTAL2, 19 XTAL1, 20 GND, 21 PC0(A8) (io), 22 PC1(A9) (io), 23 PC2(A10) (io), 24 PC3(A11) (io), 25 PC4(A12) (io), 26 PC5(A13) (io), 27 PC6(A14) (io), 28 PC7(A15) (io), 29 OC1B (io), 30 ALE (io), 31 ICP (io), 32 PA7(AD7) (io), 33 PA6(AD6) (io), 34 PA5(AD5) (io), 35 PA4(AD4) (io), 36 PA3(AD3) (io), 37 PA2(AD2) (io), 38 PA1(AD1) (io), 39 PA0(AD0) (io), 40 VCC

## AVR.AT90S4434-DIL40
designator IC?  (value not drawn)
Manufacturer: Atmel; Flash: Kb; SRAM: Bytes; Volt: V; CPU Speed (MIPS): 0 MIPS; ComponentLink1Description: Degikey Part link; ComponentLink2Description: Open DataSheet; ComponentLink2URL: H:\LIBRARY\LIBRARY.Datasheet\; Publisher: Hoang Nguyen
footprint DIL40
pins: 1 PB0(T0) (io), 2 PB1(T1) (io), 3 PB2(AIN0) (io), 4 PB3(AIN1) (io), 5 PB4(~{SS}) (io), 6 PB5(MOSI) (io), 7 PB6[MISO) (io), 8 PB7[SCK) (io), 9 ~{RESET} (in), 10 VCC, 11 GND, 12 XTAL2, 13 XTAL1, 14 PD0(RXD) (io), 15 PD1(TXD) (io), 16 PD2(INT0) (io), 17 PD3(INT1) (io), 18 PD4(OC1B) (io), 19 PD5(OC1A) (io), 20 PD6(ICP) (io), 21 PD7(OC2) (io), 22 PC0 (io), 23 PC1 (io), 24 PC2 (io), 25 PC3 (io), 26 PC4 (io), 27 PC5 (io), 28 PC6(TOSC1) (io), 29 PC7(TOSC2) (io), 30 AVCC, 31 AGND, 32 AREF, 33 PA7(ADC7) (io), 34 PA6(ADC6) (io), 35 PA5(ADC5) (io), 36 PA4(ADC4) (io), 37 PA3(ADC3) (io), 38 PA2(ADC2) (io), 39 PA1(ADC1) (io), 40 PA0(ADC0) (io)

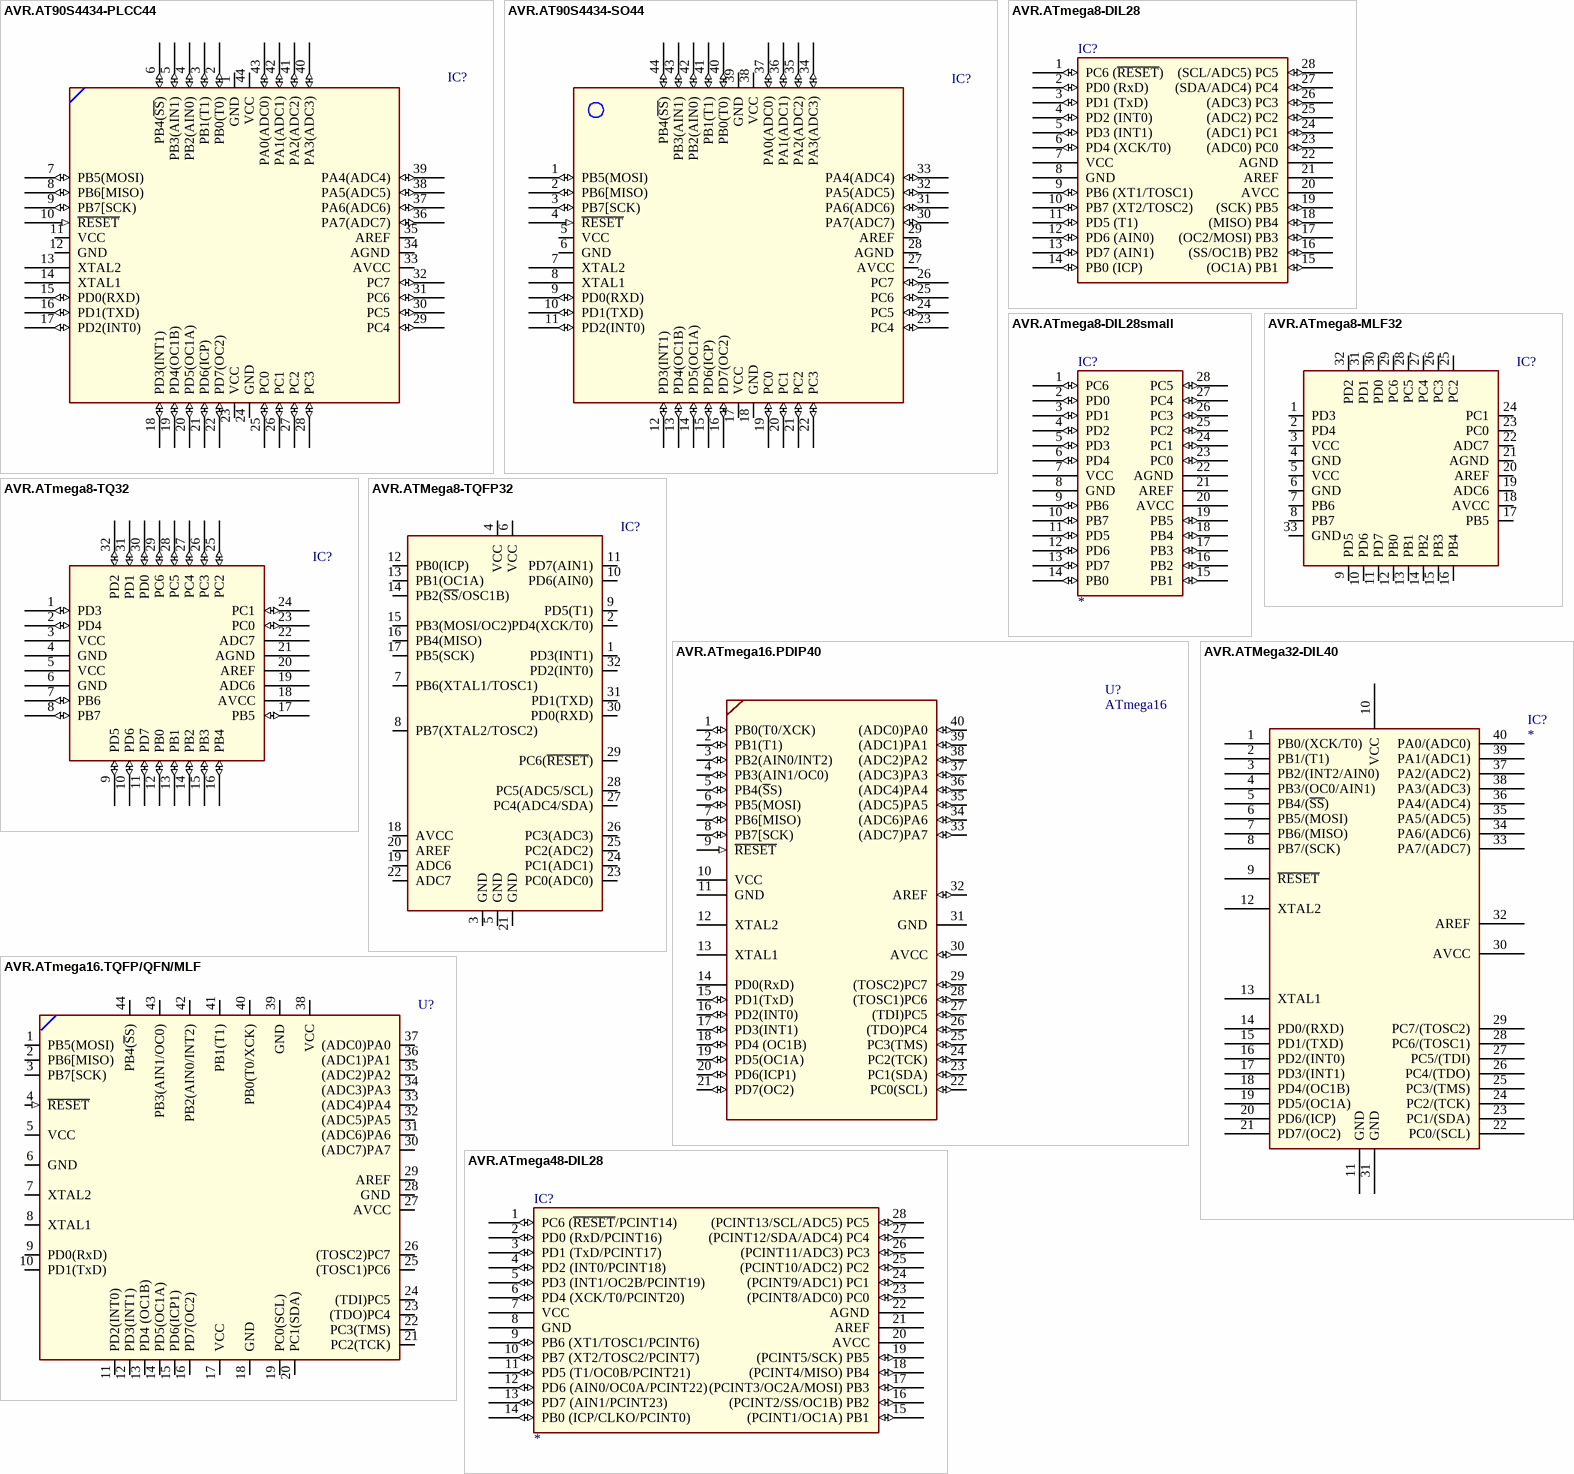
[diagram p3: symbols AVR.AT90S4434-PLCC44 to AVR.ATmega48-DIL28]

## AVR.AT90S4434-PLCC44
designator IC?  (value not drawn)
Manufacturer: Atmel; Flash: Kb; SRAM: Bytes; Volt: V; CPU Speed (MIPS): 0 MIPS; ComponentLink1Description: Degikey Part link; ComponentLink2Description: Open DataSheet; ComponentLink2URL: H:\LIBRARY\LIBRARY.Datasheet\; Publisher: Hoang Nguyen
footprint PLCC44
pins: 1 GND, 2 PB0(T0) (io), 3 PB1(T1) (io), 4 PB2(AIN0) (io), 5 PB3(AIN1) (io), 6 PB4(~{SS}) (io), 7 PB5(MOSI) (io), 8 PB6[MISO) (io), 9 PB7[SCK) (io), 10 ~{RESET} (in), 11 VCC, 12 GND, 13 XTAL2, 14 XTAL1, 15 PD0(RXD) (io), 16 PD1(TXD) (io), 17 PD2(INT0) (io), 18 PD3(INT1) (io), 19 PD4(OC1B) (io), 20 PD5(OC1A) (io), 21 PD6(ICP) (io), 22 PD7(OC2) (io), 23 VCC, 24 GND, 25 PC0 (io), 26 PC1 (io), 27 PC2 (io), 28 PC3 (io), 29 PC4 (io), 30 PC5 (io), 31 PC6 (io), 32 PC7 (io), 33 AVCC, 34 AGND, 35 AREF, 36 PA7(ADC7) (io), 37 PA6(ADC6) (io), 38 PA5(ADC5) (io), 39 PA4(ADC4) (io), 40 PA3(ADC3) (io), 41 PA2(ADC2) (io), 42 PA1(ADC1) (io), 43 PA0(ADC0) (io), 44 VCC

## AVR.AT90S4434-SO44
designator IC?  (value not drawn)
Manufacturer: Atmel; Flash: Kb; SRAM: Bytes; Volt: V; CPU Speed (MIPS): 0 MIPS; ComponentLink1Description: Degikey Part link; ComponentLink2Description: Open DataSheet; ComponentLink2URL: H:\LIBRARY\LIBRARY.Datasheet\; Publisher: Hoang Nguyen
footprint SO44
pins: 1 PB5(MOSI) (io), 2 PB6[MISO) (io), 3 PB7[SCK) (io), 4 ~{RESET} (in), 5 VCC, 6 GND, 7 XTAL2, 8 XTAL1, 9 PD0(RXD) (io), 10 PD1(TXD) (io), 11 PD2(INT0) (io), 12 PD3(INT1) (io), 13 PD4(OC1B) (io), 14 PD5(OC1A) (io), 15 PD6(ICP) (io), 16 PD7(OC2) (io), 17 VCC, 18 GND, 19 PC0 (io), 20 PC1 (io), 21 PC2 (io), 22 PC3 (io), 23 PC4 (io), 24 PC5 (io), 25 PC6 (io), 26 PC7 (io), 27 AVCC, 28 AGND, 29 AREF, 30 PA7(ADC7) (io), 31 PA6(ADC6) (io), 32 PA5(ADC5) (io), 33 PA4(ADC4) (io), 34 PA3(ADC3) (io), 35 PA2(ADC2) (io), 36 PA1(ADC1) (io), 37 PA0(ADC0) (io), 38 VCC, 39 GND, 40 PB0(T0) (io), 41 PB1(T1) (io), 42 PB2(AIN0) (io), 43 PB3(AIN1) (io), 44 PB4(~{SS}) (io)

## AVR.ATmega8-DIL28
designator IC?  (value not drawn)
Manufacturer: Atmel; Flash: Kb; SRAM: Bytes; Volt: V; CPU Speed (MIPS): 0 MIPS; ComponentLink1Description: Degikey Part link; ComponentLink2Description: Open DataSheet; ComponentLink2URL: H:\LIBRARY\LIBRARY.Datasheet\; Publisher: Hoang Nguyen
footprint DIL28
pins: 1 PC6 (~{RESET}) (io), 2 PD0 (RxD) (io), 3 PD1 (TxD) (io), 4 PD2 (INT0) (io), 5 PD3 (INT1) (io), 6 PD4 (XCK/T0) (io), 7 VCC, 8 GND, 9 PB6 (XT1/TOSC1) (io), 10 PB7 (XT2/TOSC2) (io), 11 PD5 (T1) (io), 12 PD6 (AIN0) (io), 13 PD7 (AIN1) (io), 14 PB0 (ICP) (io), 15 (OC1A) PB1 (io), 16 (SS/OC1B) PB2 (io), 17 (OC2/MOSI) PB3 (io), 18 (MISO) PB4 (io), 19 (SCK) PB5 (io), 20 AVCC, 21 AREF, 22 AGND, 23 (ADC0) PC0 (io), 24 (ADC1) PC1 (io), 25 (ADC2) PC2 (io), 26 (ADC3) PC3 (io), 27 (SDA/ADC4) PC4 (io), 28 (SCL/ADC5) PC5 (io)

## AVR.ATmega8-DIL28small
designator IC?
Manufacturer: Atmel; Flash: Kb; SRAM: Bytes; Volt: V; CPU Speed (MIPS): 0 MIPS; ComponentLink1Description: Degikey Part link; ComponentLink2Description: Open DataSheet; ComponentLink2URL: H:\LIBRARY\LIBRARY.Datasheet\; Publisher: Hoang Nguyen
footprint DIP300-28 (DIP, Plastic, Skinny; 28 Leads; Row Spacing 7.62 mm; Pitch 2.54 mm)
pins: 1 PC6 (io), 2 PD0 (io), 3 PD1 (io), 4 PD2 (io), 5 PD3 (io), 6 PD4 (io), 7 VCC, 8 GND, 9 PB6 (io), 10 PB7 (io), 11 PD5 (io), 12 PD6 (io), 13 PD7 (io), 14 PB0 (io), 15 PB1 (io), 16 PB2 (io), 17 PB3 (io), 18 PB4 (io), 19 PB5 (io), 20 AVCC, 21 AREF, 22 AGND, 23 PC0 (io), 24 PC1 (io), 25 PC2 (io), 26 PC3 (io), 27 PC4 (io), 28 PC5 (io)

## AVR.ATmega8-MLF32
designator IC?  (value not drawn)
Manufacturer: Atmel; Flash: Kb; SRAM: Bytes; Volt: V; CPU Speed (MIPS): 0 MIPS; ComponentLink1Description: Degikey Part link; ComponentLink2Description: Open DataSheet; ComponentLink2URL: H:\LIBRARY\LIBRARY.Datasheet\; Publisher: Hoang Nguyen
footprint MLF32
pins: 1 PD3 (io), 2 PD4 (io), 3 VCC, 4 GND, 5 VCC, 6 GND, 7 PB6 (io), 8 PB7 (io), 9 PD5 (io), 10 PD6 (io), 11 PD7 (io), 12 PB0 (io), 13 PB1 (io), 14 PB2 (io), 15 PB3 (io), 16 PB4 (io), 17 PB5 (io), 18 AVCC, 19 ADC6, 20 AREF, 21 AGND, 22 ADC7, 23 PC0 (io), 24 PC1 (io), 25 PC2 (io), 26 PC3 (io), 27 PC4 (io), 28 PC5 (io), 29 PC6 (io), 30 PD0 (io), 31 PD1 (io), 32 PD2 (io), 33 GND

## AVR.ATmega8-TQ32
designator IC?  (value not drawn)
Manufacturer: Atmel; Flash: Kb; SRAM: Bytes; Volt: V; CPU Speed (MIPS): 0 MIPS; ComponentLink1Description: Degikey Part link; ComponentLink2Description: Open DataSheet; ComponentLink2URL: H:\LIBRARY\LIBRARY.Datasheet\; Publisher: Hoang Nguyen
footprint TQFP32
pins: 1 PD3 (io), 2 PD4 (io), 3 VCC, 4 GND, 5 VCC, 6 GND, 7 PB6 (io), 8 PB7 (io), 9 PD5 (io), 10 PD6 (io), 11 PD7 (io), 12 PB0 (io), 13 PB1 (io), 14 PB2 (io), 15 PB3 (io), 16 PB4 (io), 17 PB5 (io), 18 AVCC, 19 ADC6, 20 AREF, 21 AGND, 22 ADC7, 23 PC0 (io), 24 PC1 (io), 25 PC2 (io), 26 PC3 (io), 27 PC4 (io), 28 PC5 (io), 29 PC6 (io), 30 PD0 (io), 31 PD1 (io), 32 PD2 (io)

## AVR.ATMega8-TQFP32
designator IC?  (value not drawn)
Manufacturer: Atmel; Flash: Kb; SRAM: Bytes; Volt: V; CPU Speed (MIPS): 0 MIPS; ComponentLink1Description: Degikey Part link; ComponentLink2Description: Open DataSheet; ComponentLink2URL: H:\LIBRARY\LIBRARY.Datasheet\; Publisher: Hoang Nguyen
pins: 1 PD3(INT1), 2 PD4(XCK/T0), 3 GND, 4 VCC, 5 GND, 6 VCC, 7 PB6(XTAL1/TOSC1), 8 PB7(XTAL2/TOSC2), 9 PD5(T1), 10 PD6(AIN0), 11 PD7(AIN1), 12 PB0(ICP), 13 PB1(OC1A), 14 PB2(~{SS}/OSC1B), 15 PB3(MOSI/OC2), 16 PB4(MISO), 17 PB5(SCK), 18 AVCC, 19 ADC6, 20 AREF, 21 GND, 22 ADC7, 23 PC0(ADC0), 24 PC1(ADC1), 25 PC2(ADC2), 26 PC3(ADC3), 27 PC4(ADC4/SDA), 28 PC5(ADC5/SCL), 29 PC6(~{RESET}), 30 PD0(RXD), 31 PD1(TXD), 32 PD2(INT0)

## AVR.ATmega16.PDIP40
designator U?, comment ATmega16
8-bit ATmega16; Manufacturer: Atmel; Flash: Kb; SRAM: Bytes; Volt: V; CPU Speed (MIPS): 0 MIPS; ComponentLink1Description: Degikey Part link; ComponentLink2Description: Open DataSheet; ComponentLink2URL: H:\LIBRARY\LIBRARY.Datasheet\ATmega16.pdf; Publisher: Hoang Nguyen
footprint DIP600-40 (DIP, Plastic; 40 Leads; Row Spacing 15.24 mm; Pitch 2.54 mm)
pins: 1 PB0(T0/XCK) (io), 2 PB1(T1) (io), 3 PB2(AIN0/INT2) (io), 4 PB3(AIN1/OC0) (io), 5 PB4(~{S}S) (io), 6 PB5(MOSI) (io), 7 PB6[MISO) (io), 8 PB7[SCK) (io), 9 ~{RESET} (in), 10 VCC (power), 11 GND (power), 12 XTAL2, 13 XTAL1, 14 PD0(RxD), 15 PD1(TxD) (io), 16 PD2(INT0) (io), 17 PD3(INT1) (io), 18 PD4 (OC1B) (io), 19 PD5(OC1A) (io), 20 PD6(ICP1) (io), 21 PD7(OC2) (io), 22 PC0(SCL) (io), 23 PC1(SDA) (io), 24 PC2(TCK) (io), 25 PC3(TMS) (io), 26 (TDO)PC4 (io), 27 (TDI)PC5 (io), 28 (TOSC1)PC6 (io), 29 (TOSC2)PC7 (io), 30 AVCC (io), 31 GND, 32 AREF (io), 33 (ADC7)PA7 (io), 34 (ADC6)PA6 (io), 35 (ADC5)PA5 (io), 36 (ADC4)PA4 (io), 37 (ADC3)PA3 (io), 38 (ADC2)PA2 (io), 39 (ADC1)PA1 (io), 40 (ADC0)PA0 (io)

## AVR.ATmega16.TQFP/QFN/MLF
designator U?  (value not drawn)
Manufacturer: Atmel; Flash: Kb; SRAM: Bytes; Volt: V; CPU Speed (MIPS): 0 MIPS; ComponentLink1Description: Degikey Part link; ComponentLink2Description: Open DataSheet; ComponentLink2URL: H:\LIBRARY\LIBRARY.Datasheet\ATmega16.pdf; Publisher: Hoang Nguyen
footprint TQFP44
pins: 1 PB5(MOSI) (io), 2 PB6[MISO) (io), 3 PB7[SCK) (io), 4 ~{RESET} (in), 5 VCC, 6 GND, 7 XTAL2, 8 XTAL1, 9 PD0(RxD), 10 PD1(TxD) (io), 11 PD2(INT0) (io), 12 PD3(INT1) (io), 13 PD4 (OC1B) (io), 14 PD5(OC1A) (io), 15 PD6(ICP1) (io), 16 PD7(OC2) (io), 17 VCC, 18 GND, 19 PC0(SCL) (io), 20 PC1(SDA) (io), 21 PC2(TCK) (io), 22 PC3(TMS) (io), 23 (TDO)PC4 (io), 24 (TDI)PC5 (io), 25 (TOSC1)PC6 (io), 26 (TOSC2)PC7 (io), 27 AVCC (io), 28 GND, 29 AREF (io), 30 (ADC7)PA7 (io), 31 (ADC6)PA6 (io), 32 (ADC5)PA5 (io), 33 (ADC4)PA4 (io), 34 (ADC3)PA3 (io), 35 (ADC2)PA2 (io), 36 (ADC1)PA1 (io), 37 (ADC0)PA0 (io), 38 VCC, 39 GND, 40 PB0(T0/XCK) (io), 41 PB1(T1) (io), 42 PB2(AIN0/INT2) (io), 43 PB3(AIN1/OC0) (io), 44 PB4(~{S}S) (io)

## AVR.ATMega32-DIL40
designator IC?
Manufacturer: Atmel; Flash: Kb; SRAM: Bytes; Volt: V; CPU Speed (MIPS): 0 MIPS; ComponentLink1Description: Degikey Part link; ComponentLink2Description: Open DataSheet; ComponentLink2URL: H:\LIBRARY\LIBRARY.Datasheet\; Publisher: Hoang Nguyen
footprint DIP600-40 - With Name_N (DIP, Plastic; 40 Leads; Row Spacing 15.24 mm; Pitch 2.54 mm)
pins: 1 PB0/(XCK/T0), 2 PB1/(T1), 3 PB2/(INT2/AIN0), 4 PB3/(OC0/AIN1), 5 PB4/(~{SS}), 6 PB5/(MOSI), 7 PB6/(MISO), 8 PB7/(SCK), 9 ~{RESET}, 10 VCC, 11 GND, 12 XTAL2, 13 XTAL1, 14 PD0/(RXD), 15 PD1/(TXD), 16 PD2/(INT0), 17 PD3/(INT1), 18 PD4/(OC1B), 19 PD5/(OC1A), 20 PD6/(ICP), 21 PD7/(OC2), 22 PC0/(SCL), 23 PC1/(SDA), 24 PC2/(TCK), 25 PC3/(TMS), 26 PC4/(TDO), 27 PC5/(TDI), 28 PC6/(TOSC1), 29 PC7/(TOSC2), 30 AVCC, 31 GND, 32 AREF, 33 PA7/(ADC7), 34 PA6/(ADC6), 35 PA5/(ADC5), 36 PA4/(ADC4), 37 PA2/(ADC2), 38 PA3/(ADC3), 39 PA1/(ADC1), 40 PA0/(ADC0)

## AVR.ATmega48-DIL28
designator IC?
Manufacturer: Atmel; Flash: Kb; SRAM: Bytes; Volt: V; CPU Speed (MIPS): 0 MIPS; ComponentLink1Description: Degikey Part link; ComponentLink2Description: Open DataSheet; ComponentLink2URL: H:\LIBRARY\LIBRARY.Datasheet\; Publisher: Hoang Nguyen
footprint DIL28
pins: 1 PC6 (~{RESET}/PCINT14) (io), 2 PD0 (RxD/PCINT16) (io), 3 PD1 (TxD/PCINT17) (io), 4 PD2 (INT0/PCINT18) (io), 5 PD3 (INT1/OC2B/PCINT19) (io), 6 PD4 (XCK/T0/PCINT20) (io), 7 VCC, 8 GND, 9 PB6 (XT1/TOSC1/PCINT6) (io), 10 PB7 (XT2/TOSC2/PCINT7) (io), 11 PD5 (T1/OC0B/PCINT21) (io), 12 PD6 (AIN0/OC0A/PCINT22) (io), 13 PD7 (AIN1/PCINT23) (io), 14 PB0 (ICP/CLKO/PCINT0) (io), 15 (PCINT1/OC1A) PB1 (io), 16 (PCINT2/SS/OC1B) PB2 (io), 17 (PCINT3/OC2A/MOSI) PB3 (io), 18 (PCINT4/MISO) PB4 (io), 19 (PCINT5/SCK) PB5 (io), 20 AVCC, 21 AREF, 22 AGND, 23 (PCINT8/ADC0) PC0 (io), 24 (PCINT9/ADC1) PC1 (io), 25 (PCINT10/ADC2) PC2 (io), 26 (PCINT11/ADC3) PC3 (io), 27 (PCINT12/SDA/ADC4) PC4 (io), 28 (PCINT13/SCL/ADC5) PC5 (io)

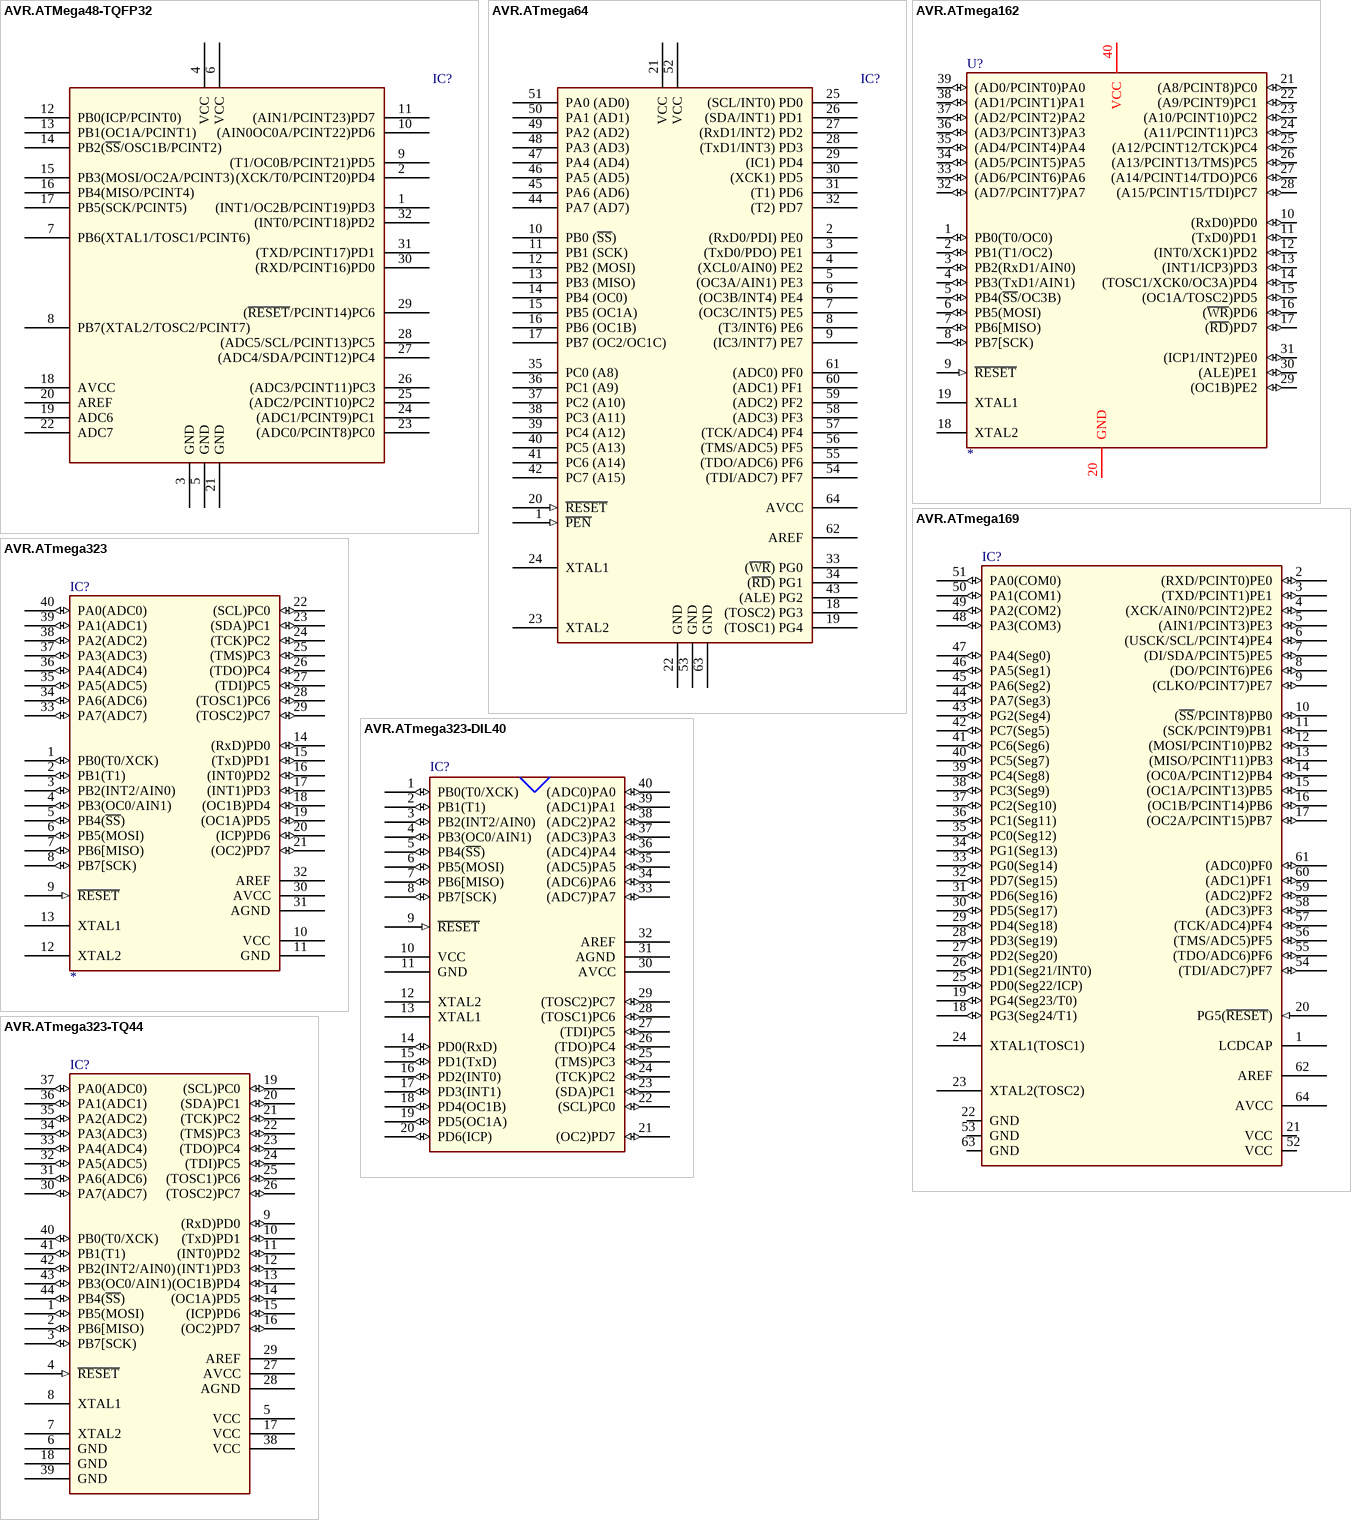
[diagram p4: symbols AVR.ATMega48-TQFP32 to AVR.ATmega323-TQ44]

## AVR.ATMega48-TQFP32
designator IC?  (value not drawn)
Manufacturer: Atmel; Flash: Kb; SRAM: Bytes; Volt: V; CPU Speed (MIPS): 0 MIPS; ComponentLink1Description: Degikey Part link; ComponentLink2Description: Open DataSheet; ComponentLink2URL: H:\LIBRARY\LIBRARY.Datasheet\; Publisher: Hoang Nguyen
footprint TQFP32
pins: 1 (INT1/OC2B/PCINT19)PD3, 2 (XCK/T0/PCINT20)PD4, 3 GND, 4 VCC, 5 GND, 6 VCC, 7 PB6(XTAL1/TOSC1/PCINT6), 8 PB7(XTAL2/TOSC2/PCINT7), 9 (T1/OC0B/PCINT21)PD5, 10 (AIN0OC0A/PCINT22)PD6, 11 (AIN1/PCINT23)PD7, 12 PB0(ICP/PCINT0), 13 PB1(OC1A/PCINT1), 14 PB2(~{SS}/OSC1B/PCINT2), 15 PB3(MOSI/OC2A/PCINT3), 16 PB4(MISO/PCINT4), 17 PB5(SCK/PCINT5), 18 AVCC, 19 ADC6, 20 AREF, 21 GND, 22 ADC7, 23 (ADC0/PCINT8)PC0, 24 (ADC1/PCINT9)PC1, 25 (ADC2/PCINT10)PC2, 26 (ADC3/PCINT11)PC3, 27 (ADC4/SDA/PCINT12)PC4, 28 (ADC5/SCL/PCINT13)PC5, 29 (~{RESET}/PCINT14)PC6, 30 (RXD/PCINT16)PD0, 31 (TXD/PCINT17)PD1, 32 (INT0/PCINT18)PD2

## AVR.ATmega64
designator IC?  (value not drawn)
Manufacturer: Atmel; Flash: Kb; SRAM: Bytes; Volt: V; CPU Speed (MIPS): 0 MIPS; ComponentLink1Description: Degikey Part link; ComponentLink2Description: Open DataSheet; ComponentLink2URL: H:\LIBRARY\LIBRARY.Datasheet\; Publisher: Hoang Nguyen
footprint QFP14X14_64
pins: 1 ~{PEN} (in), 2 (RxD0/PDI) PE0 (hiz), 3 (TxD0/PDO) PE1 (hiz), 4 (XCL0/AIN0) PE2 (hiz), 5 (OC3A/AIN1) PE3 (hiz), 6 (OC3B/INT4) PE4 (hiz), 7 (OC3C/INT5) PE5 (hiz), 8 (T3/INT6) PE6 (hiz), 9 (IC3/INT7) PE7 (hiz), 10 PB0 (~{SS}) (hiz), 11 PB1 (SCK) (hiz), 12 PB2 (MOSI) (hiz), 13 PB3 (MISO) (hiz), 14 PB4 (OC0) (hiz), 15 PB5 (OC1A) (hiz), 16 PB6 (OC1B) (hiz), 17 PB7 (OC2/OC1C) (hiz), 18 (TOSC2) PG3 (hiz), 19 (TOSC1) PG4 (hiz), 20 ~{RESET} (in), 21 VCC, 22 GND, 23 XTAL2, 24 XTAL1, 25 (SCL/INT0) PD0 (hiz), 26 (SDA/INT1) PD1 (hiz), 27 (RxD1/INT2) PD2 (hiz), 28 (TxD1/INT3) PD3 (hiz), 29 (IC1) PD4 (hiz), 30 (XCK1) PD5 (hiz), 31 (T1) PD6 (hiz), 32 (T2) PD7 (hiz), 33 (~{WR}) PG0 (hiz), 34 (~{RD}) PG1 (hiz), 35 PC0 (A8) (hiz), 36 PC1 (A9) (hiz), 37 PC2 (A10) (hiz), 38 PC3 (A11) (hiz), 39 PC4 (A12) (hiz), 40 PC5 (A13) (hiz), 41 PC6 (A14) (hiz), 42 PC7 (A15) (hiz), 43 (ALE) PG2 (hiz), 44 PA7 (AD7) (hiz), 45 PA6 (AD6) (hiz), 46 PA5 (AD5) (hiz), 47 PA4 (AD4) (hiz), 48 PA3 (AD3) (hiz), 49 PA2 (AD2) (hiz), 50 PA1 (AD1) (hiz), 51 PA0 (AD0) (hiz), 52 VCC, 53 GND, 54 (TDI/ADC7) PF7 (hiz), 55 (TDO/ADC6) PF6 (hiz), 56 (TMS/ADC5) PF5 (hiz), 57 (TCK/ADC4) PF4 (hiz), 58 (ADC3) PF3 (hiz), 59 (ADC2) PF2 (hiz), 60 (ADC1) PF1 (hiz), 61 (ADC0) PF0 (hiz), 62 AREF, 63 GND, 64 AVCC

## AVR.ATmega162
designator U?
Manufacturer: Atmel; Flash: 16 Kb; SRAM: 1024 Bytes; Volt: 1.8-5.5V; CPU Speed (MIPS): 0 MIPS; ComponentLink1Description: Degikey Part link; ComponentLink2Description: Open DataSheet; ComponentLink2URL: H:\LIBRARY\LIBRARY.Datasheet\mega162.pdf; Publisher: Hoang Nguyen
footprint DIP600-40 (DIP, Plastic; 40 Leads; Row Spacing 15.24 mm; Pitch 2.54 mm)
footprint TQFP-44_M - At162 (Thin QFP, 44-Leads, Body 10x10mm, Pitch 0.8mm, IPC Low Density)
pins: 1 PB0(T0/OC0) (io), 2 PB1(T1/OC2) (io), 3 PB2(RxD1/AIN0) (io), 4 PB3(TxD1/AIN1) (io), 5 PB4(~{SS}/OC3B) (io), 6 PB5(MOSI) (io), 7 PB6[MISO) (io), 8 PB7[SCK) (io), 9 ~{RESET} (in), 10 (RxD0)PD0 (io), 11 (TxD0)PD1 (io), 12 (INT0/XCK1)PD2 (io), 13 (INT1/ICP3)PD3 (io), 14 (TOSC1/XCK0/OC3A)PD4 (io), 15 (OC1A/TOSC2)PD5 (io), 16 (~{WR})PD6 (io), 17 (~{RD})PD7 (io), 18 XTAL2, 19 XTAL1, 20 GND (power), 21 (A8/PCINT8)PC0 (io), 22 (A9/PCINT9)PC1 (io), 23 (A10/PCINT10)PC2 (io), 24 (A11/PCINT11)PC3 (io), 25 (A12/PCINT12/TCK)PC4 (io), 26 (A13/PCINT13/TMS)PC5 (io), 27 (A14/PCINT14/TDO)PC6 (io), 28 (A15/PCINT15/TDI)PC7 (io), 29 (OC1B)PE2 (io), 30 (ALE)PE1 (io), 31 (ICP1/INT2)PE0 (io), 32 (AD7/PCINT7)PA7 (io), 33 (AD6/PCINT6)PA6 (io), 34 (AD5/PCINT5)PA5 (io), 35 (AD4/PCINT4)PA4 (io), 36 (AD3/PCINT3)PA3 (io), 37 (AD2/PCINT2)PA2 (io), 38 (AD1/PCINT1)PA1 (io), 39 (AD0/PCINT0)PA0 (io), 40 VCC